# Altium schematic symbol library H3_PROTOTYPE_DDR3_16X2_V3_0_20141113_Library.SchLib: 144 symbols (part 1 of 3)
Pins are listed as number, name and electrical type; pins without a type are passive.

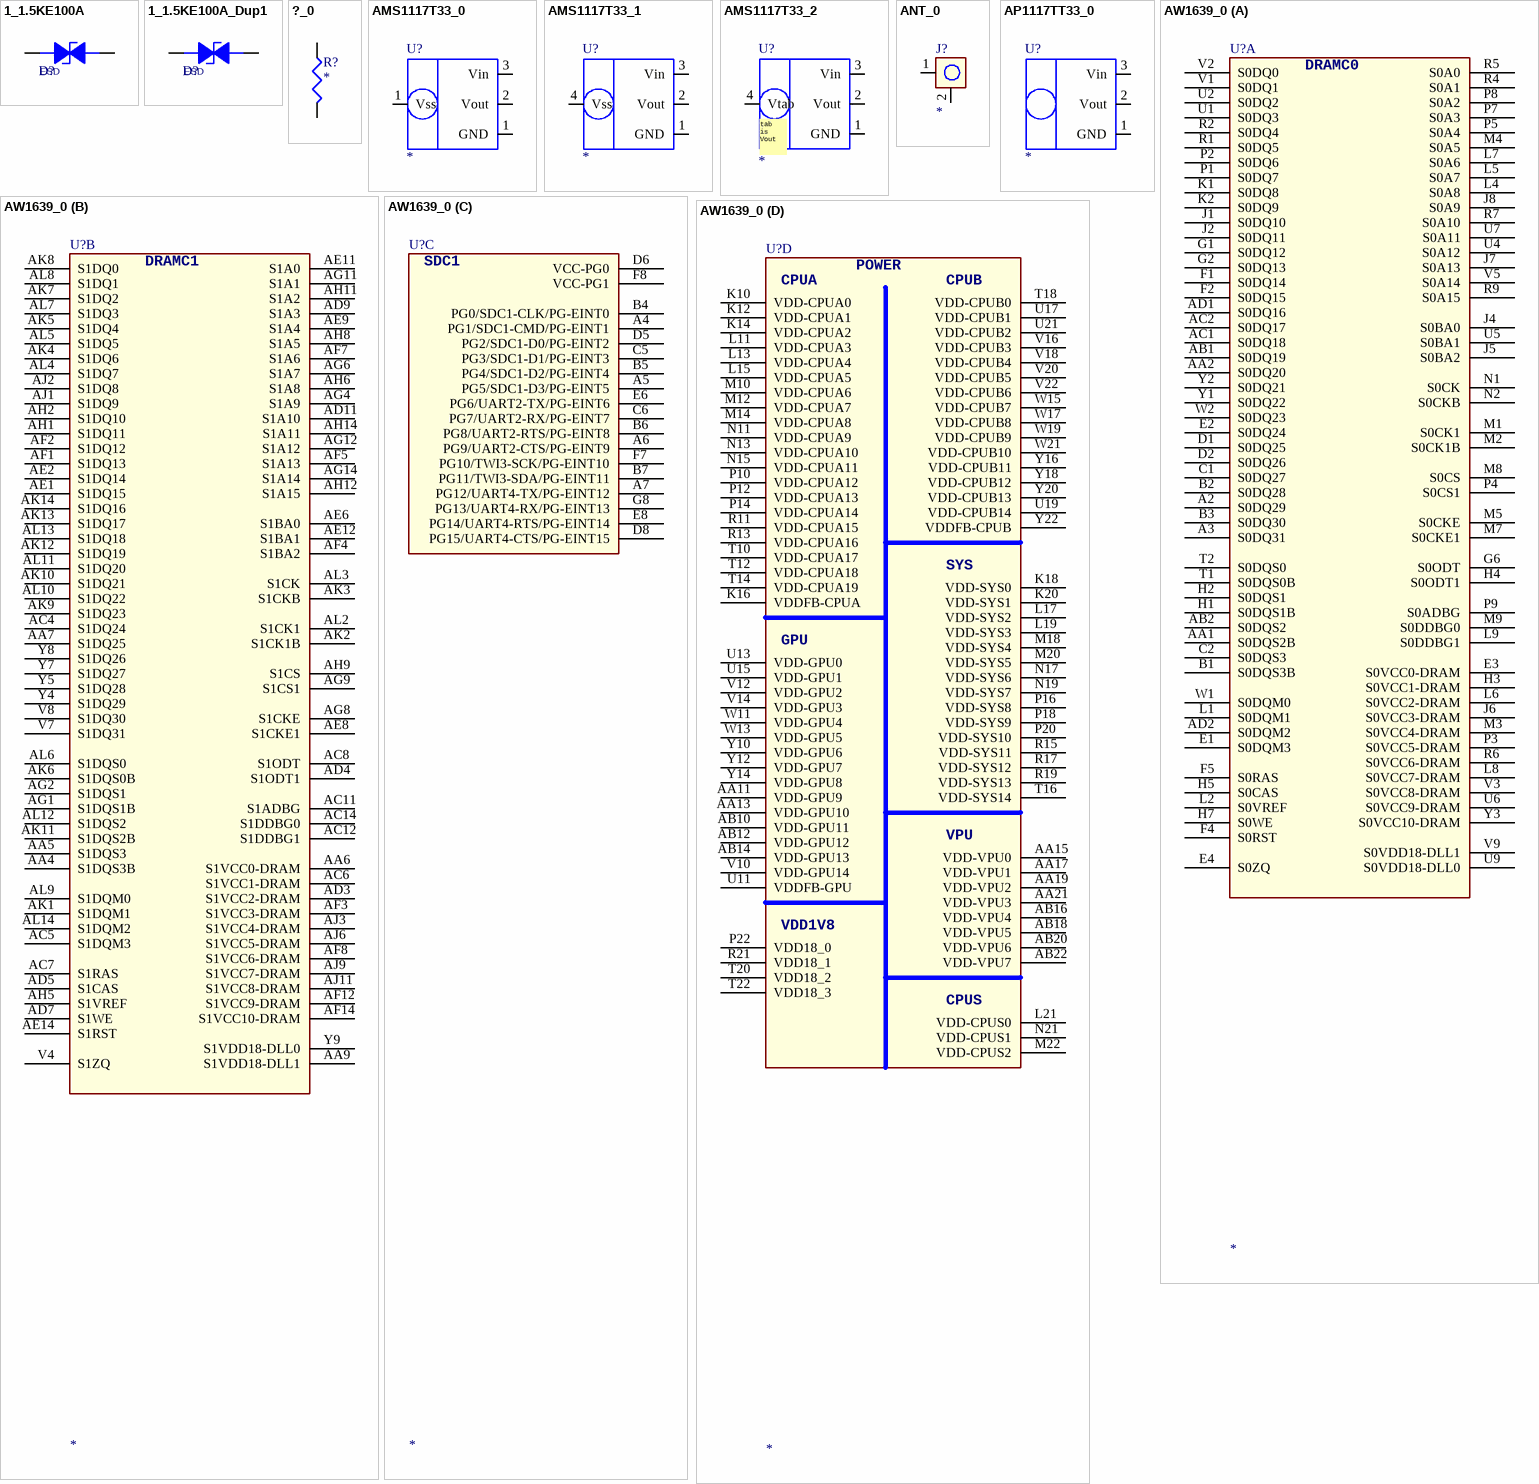
[diagram p0: symbols 1_1.5KE100A to AW1639_0]

## 1_1.5KE100A
designator D?, comment ESD
pins: 1 ANODE, 2 CATHODE

## 1_1.5KE100A_Dup1
designator D?, comment ESD
pins: 1 ANODE, 2 CATHODE

## ?_0
designator R?
footprint R0402
pins: 1, 2

## AMS1117T33_0
designator U?
pins: 1 GND, 1 Vss, 2 Vout, 3 Vin

## AMS1117T33_1
designator U?
pins: 1 GND, 2 Vout, 3 Vin, 4 Vss

## AMS1117T33_2
designator U?
pins: 1 GND, 2 Vout, 3 Vin, 4 Vtab
text: tab / is / Vout

## ANT_0
designator J?
pins: 1, 2

## AP1117TT33_0
designator U?
pins: 1 GND, 2 Vout, 3 Vin

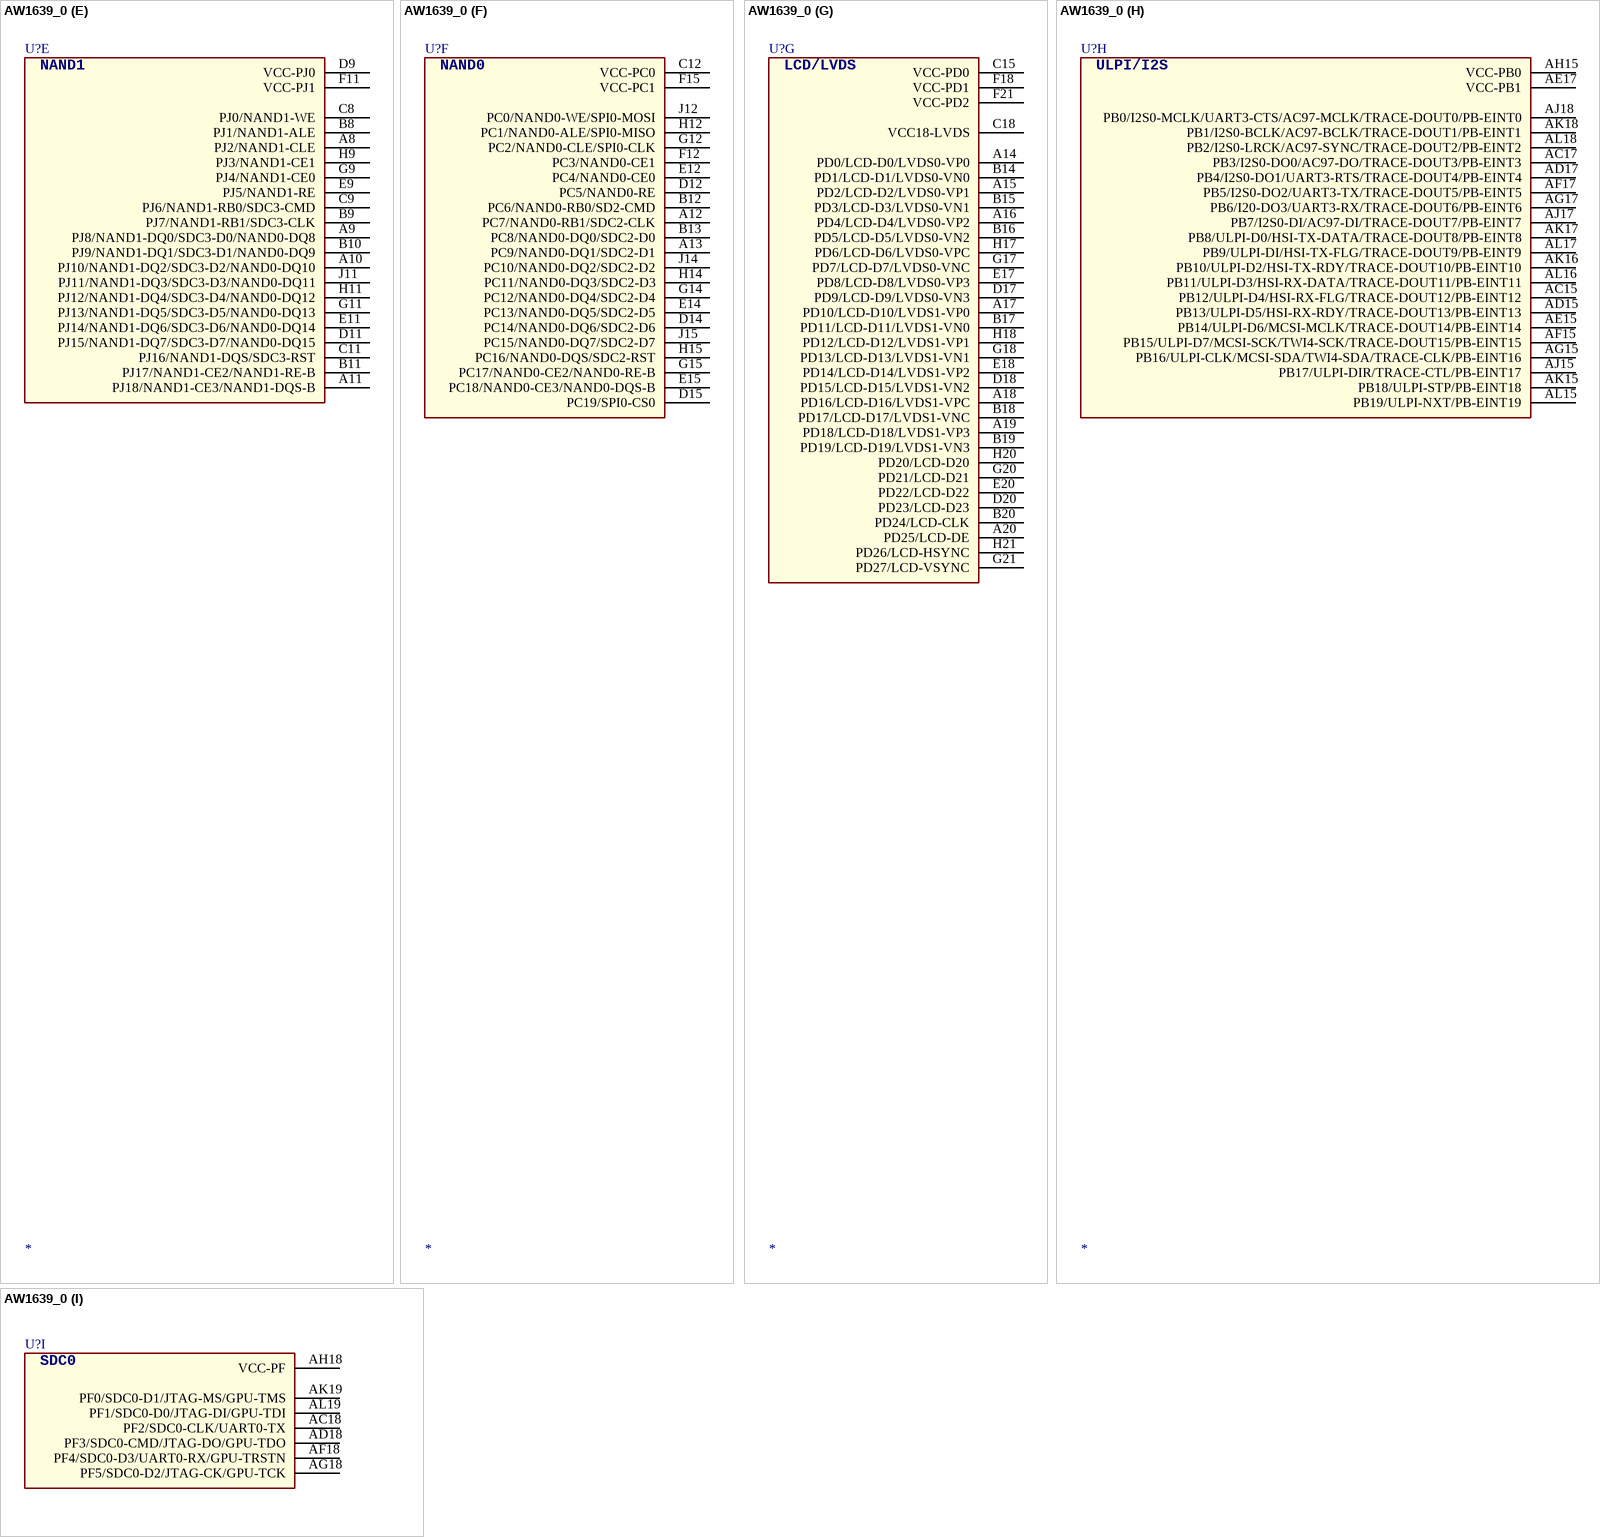
[diagram p1: symbol AW1639_0]

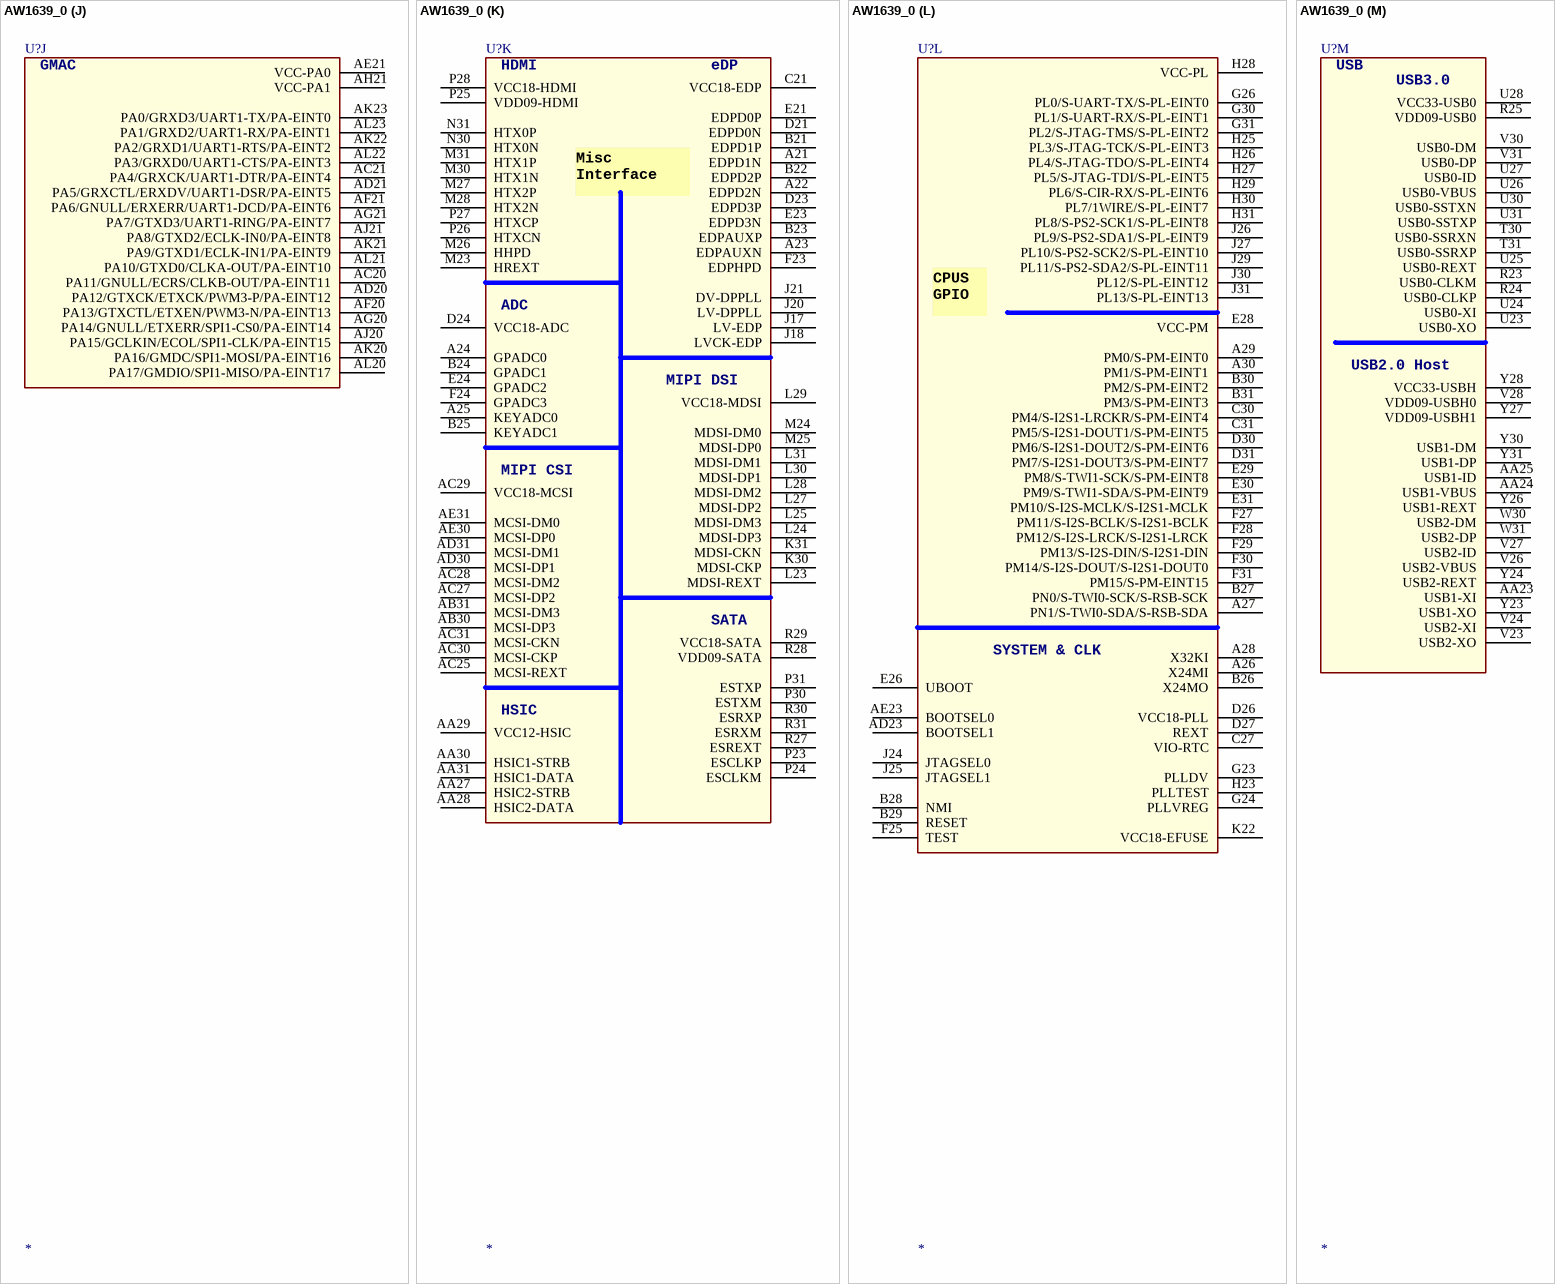
[diagram p2: symbol AW1639_0]

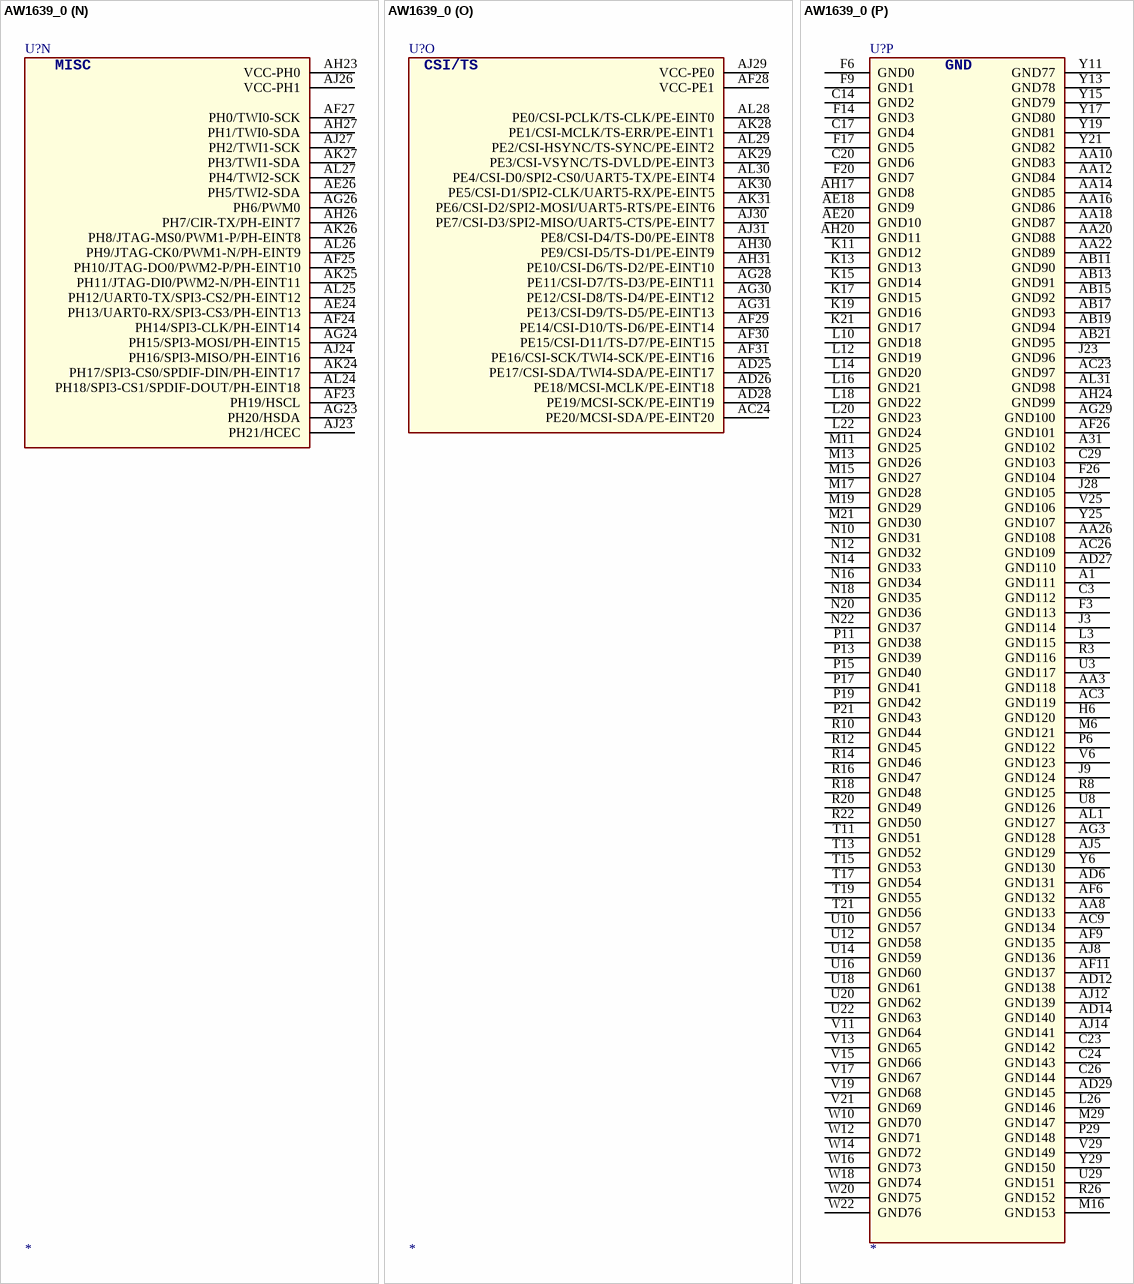
[diagram p3: symbol AW1639_0]

## AW1639_0
designator U?
part A pins: A2 S0DQ29, A3 S0DQ31, AA1 S0DQS2B, AA2 S0DQ20, AB1 S0DQ19, AB2 S0DQS2, AC1 S0DQ18, AC2 S0DQ17, AD1 S0DQ16, AD2 S0DQM2, B1 S0DQS3B, B2 S0DQ28, B3 S0DQ30, C1 S0DQ27, C2 S0DQS3, D1 S0DQ25, D2 S0DQ26, E1 S0DQM3, E2 S0DQ24, E3 S0VCC0-DRAM, E4 S0ZQ, F1 S0DQ14, F2 S0DQ15, F4 S0RST, F5 S0RAS, G1 S0DQ12, G2 S0DQ13, G6 S0ODT, H1 S0DQS1B, H2 S0DQS1, H3 S0VCC1-DRAM, H4 S0ODT1, H5 S0CAS, H7 S0WE, J1 S0DQ10, J2 S0DQ11, J4 S0BA0, J5 S0BA2, J6 S0VCC3-DRAM, J7 S0A13, J8 S0A9, K1 S0DQ8, K2 S0DQ9, L1 S0DQM1, L2 S0VREF, L4 S0A8, L5 S0A7, L6 S0VCC2-DRAM, L7 S0A6, L8 S0VCC7-DRAM, L9 S0DDBG1, M1 S0CK1, M2 S0CK1B, M3 S0VCC4-DRAM, M4 S0A5, M5 S0CKE, M7 S0CKE1, M8 S0CS, M9 S0DDBG0, N1 S0CK, N2 S0CKB, P1 S0DQ7, P2 S0DQ6, P3 S0VCC5-DRAM, P4 S0CS1, P5 S0A4, P7 S0A3, P8 S0A2, P9 S0ADBG, R1 S0DQ5, R2 S0DQ4, R4 S0A1, R5 S0A0, R6 S0VCC6-DRAM, R7 S0A10, R9 S0A15, T1 S0DQS0B, T2 S0DQS0, U1 S0DQ3, U2 S0DQ2, U4 S0A12, U5 S0BA1, U6 S0VCC9-DRAM, U7 S0A11, U9 S0VDD18-DLL0, V1 S0DQ1, V2 S0DQ0, V3 S0VCC8-DRAM, V5 S0A14, V9 S0VDD18-DLL1, W1 S0DQM0, W2 S0DQ23, Y1 S0DQ22, Y2 S0DQ21, Y3 S0VCC10-DRAM
part B pins: AA4 S1DQS3B, AA5 S1DQS3, AA6 S1VCC0-DRAM, AA7 S1DQ25, AA9 S1VDD18-DLL1, AC4 S1DQ24, AC5 S1DQM3, AC6 S1VCC1-DRAM, AC7 S1RAS, AC8 S1ODT, AC11 S1ADBG, AC12 S1DDBG1, AC14 S1DDBG0, AD3 S1VCC2-DRAM, AD4 S1ODT1, AD5 S1CAS, AD7 S1WE, AD9 S1A3, AD11 S1A10, AE1 S1DQ15, AE2 S1DQ14, AE6 S1BA0, AE8 S1CKE1, AE9 S1A4, AE11 S1A0, AE12 S1BA1, AE14 S1RST, AF1 S1DQ13, AF2 S1DQ12, AF3 S1VCC3-DRAM, AF4 S1BA2, AF5 S1A13, AF7 S1A6, AF8 S1VCC6-DRAM, AF12 S1VCC9-DRAM, AF14 S1VCC10-DRAM, AG1 S1DQS1B, AG2 S1DQS1, AG4 S1A9, AG6 S1A7, AG8 S1CKE, AG9 S1CS1, AG11 S1A1, AG12 S1A12, AG14 S1A14, AH1 S1DQ11, AH2 S1DQ10, AH5 S1VREF, AH6 S1A8, AH8 S1A5, AH9 S1CS, AH11 S1A2, AH12 S1A15, AH14 S1A11, AJ1 S1DQ9, AJ2 S1DQ8, AJ3 S1VCC4-DRAM, AJ6 S1VCC5-DRAM, AJ9 S1VCC7-DRAM, AJ11 S1VCC8-DRAM, AK1 S1DQM1, AK2 S1CK1B, AK3 S1CKB, AK4 S1DQ6, AK5 S1DQ4, AK6 S1DQS0B, AK7 S1DQ2, AK8 S1DQ0, AK9 S1DQ23, AK10 S1DQ21, AK11 S1DQS2B, AK12 S1DQ19, AK13 S1DQ17, AK14 S1DQ16, AL2 S1CK1, AL3 S1CK, AL4 S1DQ7, AL5 S1DQ5, AL6 S1DQS0, AL7 S1DQ3, AL8 S1DQ1, AL9 S1DQM0, AL10 S1DQ22, AL11 S1DQ20, AL12 S1DQS2, AL13 S1DQ18, AL14 S1DQM2, V4 S1ZQ, V7 S1DQ31, V8 S1DQ30, Y4 S1DQ29, Y5 S1DQ28, Y7 S1DQ27, Y8 S1DQ26, Y9 S1VDD18-DLL0
part C pins: A4 PG1/SDC1-CMD/PG-EINT1, A5 PG5/SDC1-D3/PG-EINT5, A6 PG9/UART2-CTS/PG-EINT9, A7 PG12/UART4-TX/PG-EINT12, B4 PG0/SDC1-CLK/PG-EINT0, B5 PG4/SDC1-D2/PG-EINT4, B6 PG8/UART2-RTS/PG-EINT8, B7 PG11/TWI3-SDA/PG-EINT11, C5 PG3/SDC1-D1/PG-EINT3, C6 PG7/UART2-RX/PG-EINT7, D5 PG2/SDC1-D0/PG-EINT2, D6 VCC-PG0, D8 PG15/UART4-CTS/PG-EINT15, E6 PG6/UART2-TX/PG-EINT6, E8 PG14/UART4-RTS/PG-EINT14, F7 PG10/TWI3-SCK/PG-EINT10, F8 VCC-PG1, G8 PG13/UART4-RX/PG-EINT13
part D pins: AA11 VDD-GPU9, AA13 VDD-GPU10, AA15 VDD-VPU0, AA17 VDD-VPU1, AA19 VDD-VPU2, AA21 VDD-VPU3, AB10 VDD-GPU11, AB12 VDD-GPU12, AB14 VDD-GPU13, AB16 VDD-VPU4, AB18 VDD-VPU5, AB20 VDD-VPU6, AB22 VDD-VPU7, K10 VDD-CPUA0, K12 VDD-CPUA1, K14 VDD-CPUA2, K16 VDDFB-CPUA, K18 VDD-SYS0, K20 VDD-SYS1, L11 VDD-CPUA3, L13 VDD-CPUA4, L15 VDD-CPUA5, L17 VDD-SYS2, L19 VDD-SYS3, L21 VDD-CPUS0, M10 VDD-CPUA6, M12 VDD-CPUA7, M14 VDD-CPUA8, M18 VDD-SYS4, M20 VDD-SYS5, M22 VDD-CPUS2, N11 VDD-CPUA9, N13 VDD-CPUA10, N15 VDD-CPUA11, N17 VDD-SYS6, N19 VDD-SYS7, N21 VDD-CPUS1, P10 VDD-CPUA12, P12 VDD-CPUA13, P14 VDD-CPUA14, P16 VDD-SYS8, P18 VDD-SYS9, P20 VDD-SYS10, P22 VDD18_0, R11 VDD-CPUA15, R13 VDD-CPUA16, R15 VDD-SYS11, R17 VDD-SYS12, R19 VDD-SYS13, R21 VDD18_1, T10 VDD-CPUA17, T12 VDD-CPUA18, T14 VDD-CPUA19, T16 VDD-SYS14, T18 VDD-CPUB0, T20 VDD18_2, T22 VDD18_3, U11 VDDFB-GPU, U13 VDD-GPU0, U15 VDD-GPU1, U17 VDD-CPUB1, U19 VDD-CPUB14, U21 VDD-CPUB2, V10 VDD-GPU14, V12 VDD-GPU2, V14 VDD-GPU3, V16 VDD-CPUB3, V18 VDD-CPUB4, V20 VDD-CPUB5, V22 VDD-CPUB6, W11 VDD-GPU4, W13 VDD-GPU5, W15 VDD-CPUB7, W17 VDD-CPUB8, W19 VDD-CPUB9, W21 VDD-CPUB10, Y10 VDD-GPU6, Y12 VDD-GPU7, Y14 VDD-GPU8, Y16 VDD-CPUB11, Y18 VDD-CPUB12, Y20 VDD-CPUB13, Y22 VDDFB-CPUB
part E pins: A8 PJ2/NAND1-CLE, A9 PJ8/NAND1-DQ0/SDC3-D0/NAND0-DQ8, A10 PJ10/NAND1-DQ2/SDC3-D2/NAND0-DQ10, A11 PJ18/NAND1-CE3/NAND1-DQS-B, B8 PJ1/NAND1-ALE, B9 PJ7/NAND1-RB1/SDC3-CLK, B10 PJ9/NAND1-DQ1/SDC3-D1/NAND0-DQ9, B11 PJ17/NAND1-CE2/NAND1-RE-B, C8 PJ0/NAND1-WE, C9 PJ6/NAND1-RB0/SDC3-CMD, C11 PJ16/NAND1-DQS/SDC3-RST, D9 VCC-PJ0, D11 PJ15/NAND1-DQ7/SDC3-D7/NAND0-DQ15, E9 PJ5/NAND1-RE, E11 PJ14/NAND1-DQ6/SDC3-D6/NAND0-DQ14, F11 VCC-PJ1, G9 PJ4/NAND1-CE0, G11 PJ13/NAND1-DQ5/SDC3-D5/NAND0-DQ13, H9 PJ3/NAND1-CE1, H11 PJ12/NAND1-DQ4/SDC3-D4/NAND0-DQ12, J11 PJ11/NAND1-DQ3/SDC3-D3/NAND0-DQ11
part F pins: A12 PC7/NAND0-RB1/SDC2-CLK, A13 PC9/NAND0-DQ1/SDC2-D1, B12 PC6/NAND0-RB0/SD2-CMD, B13 PC8/NAND0-DQ0/SDC2-D0, C12 VCC-PC0, D12 PC5/NAND0-RE, D14 PC14/NAND0-DQ6/SDC2-D6, D15 PC19/SPI0-CS0, E12 PC4/NAND0-CE0, E14 PC13/NAND0-DQ5/SDC2-D5, E15 PC18/NAND0-CE3/NAND0-DQS-B, F12 PC3/NAND0-CE1, F15 VCC-PC1, G12 PC2/NAND0-CLE/SPI0-CLK, G14 PC12/NAND0-DQ4/SDC2-D4, G15 PC17/NAND0-CE2/NAND0-RE-B, H12 PC1/NAND0-ALE/SPI0-MISO, H14 PC11/NAND0-DQ3/SDC2-D3, H15 PC16/NAND0-DQS/SDC2-RST, J12 PC0/NAND0-WE/SPI0-MOSI, J14 PC10/NAND0-DQ2/SDC2-D2, J15 PC15/NAND0-DQ7/SDC2-D7
part G pins: A14 PD0/LCD-D0/LVDS0-VP0, A15 PD2/LCD-D2/LVDS0-VP1, A16 PD4/LCD-D4/LVDS0-VP2, A17 PD10/LCD-D10/LVDS1-VP0, A18 PD16/LCD-D16/LVDS1-VPC, A19 PD18/LCD-D18/LVDS1-VP3, A20 PD25/LCD-DE, B14 PD1/LCD-D1/LVDS0-VN0, B15 PD3/LCD-D3/LVDS0-VN1, B16 PD5/LCD-D5/LVDS0-VN2, B17 PD11/LCD-D11/LVDS1-VN0, B18 PD17/LCD-D17/LVDS1-VNC, B19 PD19/LCD-D19/LVDS1-VN3, B20 PD24/LCD-CLK, C15 VCC-PD0, C18 VCC18-LVDS, D17 PD9/LCD-D9/LVDS0-VN3, D18 PD15/LCD-D15/LVDS1-VN2, D20 PD23/LCD-D23, E17 PD8/LCD-D8/LVDS0-VP3, E18 PD14/LCD-D14/LVDS1-VP2, E20 PD22/LCD-D22, F18 VCC-PD1, F21 VCC-PD2, G17 PD7/LCD-D7/LVDS0-VNC, G18 PD13/LCD-D13/LVDS1-VN1, G20 PD21/LCD-D21, G21 PD27/LCD-VSYNC, H17 PD6/LCD-D6/LVDS0-VPC, H18 PD12/LCD-D12/LVDS1-VP1, H20 PD20/LCD-D20, H21 PD26/LCD-HSYNC
part H pins: AC15 PB12/ULPI-D4/HSI-RX-FLG/TRACE-DOUT12/PB-EINT12, AC17 PB3/I2S0-DO0/AC97-DO/TRACE-DOUT3/PB-EINT3, AD15 PB13/ULPI-D5/HSI-RX-RDY/TRACE-DOUT13/PB-EINT13, AD17 PB4/I2S0-DO1/UART3-RTS/TRACE-DOUT4/PB-EINT4, AE15 PB14/ULPI-D6/MCSI-MCLK/TRACE-DOUT14/PB-EINT14, AE17 VCC-PB1, AF15 PB15/ULPI-D7/MCSI-SCK/TWI4-SCK/TRACE-DOUT15/PB-EINT15, AF17 PB5/I2S0-DO2/UART3-TX/TRACE-DOUT5/PB-EINT5, AG15 PB16/ULPI-CLK/MCSI-SDA/TWI4-SDA/TRACE-CLK/PB-EINT16, AG17 PB6/I20-DO3/UART3-RX/TRACE-DOUT6/PB-EINT6, AH15 VCC-PB0, AJ15 PB17/ULPI-DIR/TRACE-CTL/PB-EINT17, AJ17 PB7/I2S0-DI/AC97-DI/TRACE-DOUT7/PB-EINT7, AJ18 PB0/I2S0-MCLK/UART3-CTS/AC97-MCLK/TRACE-DOUT0/PB-EINT0, AK15 PB18/ULPI-STP/PB-EINT18, AK16 PB10/ULPI-D2/HSI-TX-RDY/TRACE-DOUT10/PB-EINT10, AK17 PB8/ULPI-D0/HSI-TX-DATA/TRACE-DOUT8/PB-EINT8, AK18 PB1/I2S0-BCLK/AC97-BCLK/TRACE-DOUT1/PB-EINT1, AL15 PB19/ULPI-NXT/PB-EINT19, AL16 PB11/ULPI-D3/HSI-RX-DATA/TRACE-DOUT11/PB-EINT11, AL17 PB9/ULPI-DI/HSI-TX-FLG/TRACE-DOUT9/PB-EINT9, AL18 PB2/I2S0-LRCK/AC97-SYNC/TRACE-DOUT2/PB-EINT2
part I pins: AC18 PF2/SDC0-CLK/UART0-TX, AD18 PF3/SDC0-CMD/JTAG-DO/GPU-TDO, AF18 PF4/SDC0-D3/UART0-RX/GPU-TRSTN, AG18 PF5/SDC0-D2/JTAG-CK/GPU-TCK, AH18 VCC-PF, AK19 PF0/SDC0-D1/JTAG-MS/GPU-TMS, AL19 PF1/SDC0-D0/JTAG-DI/GPU-TDI
part J pins: AC20 PA11/GNULL/ECRS/CLKB-OUT/PA-EINT11, AC21 PA4/GRXCK/UART1-DTR/PA-EINT4, AD20 PA12/GTXCK/ETXCK/PWM3-P/PA-EINT12, AD21 PA5/GRXCTL/ERXDV/UART1-DSR/PA-EINT5, AE21 VCC-PA0, AF20 PA13/GTXCTL/ETXEN/PWM3-N/PA-EINT13, AF21 PA6/GNULL/ERXERR/UART1-DCD/PA-EINT6, AG20 PA14/GNULL/ETXERR/SPI1-CS0/PA-EINT14, AG21 PA7/GTXD3/UART1-RING/PA-EINT7, AH21 VCC-PA1, AJ20 PA15/GCLKIN/ECOL/SPI1-CLK/PA-EINT15, AJ21 PA8/GTXD2/ECLK-IN0/PA-EINT8, AK20 PA16/GMDC/SPI1-MOSI/PA-EINT16, AK21 PA9/GTXD1/ECLK-IN1/PA-EINT9, AK22 PA2/GRXD1/UART1-RTS/PA-EINT2, AK23 PA0/GRXD3/UART1-TX/PA-EINT0, AL20 PA17/GMDIO/SPI1-MISO/PA-EINT17, AL21 PA10/GTXD0/CLKA-OUT/PA-EINT10, AL22 PA3/GRXD0/UART1-CTS/PA-EINT3, AL23 PA1/GRXD2/UART1-RX/PA-EINT1
part K pins: A21 EDPD1N, A22 EDPD2N, A23 EDPAUXN, A24 GPADC0, A25 KEYADC0, AA27 HSIC2-STRB, AA28 HSIC2-DATA, AA29 VCC12-HSIC, AA30 HSIC1-STRB, AA31 HSIC1-DATA, AB30 MCSI-DP3, AB31 MCSI-DM3, AC25 MCSI-REXT, AC27 MCSI-DP2, AC28 MCSI-DM2, AC29 VCC18-MCSI, AC30 MCSI-CKP, AC31 MCSI-CKN, AD30 MCSI-DP1, AD31 MCSI-DM1, AE30 MCSI-DP0, AE31 MCSI-DM0, B21 EDPD1P, B22 EDPD2P, B23 EDPAUXP, B24 GPADC1, B25 KEYADC1, C21 VCC18-EDP, D21 EDPD0N, D23 EDPD3P, D24 VCC18-ADC, E21 EDPD0P, E23 EDPD3N, E24 GPADC2, F23 EDPHPD, F24 GPADC3, J17 LV-EDP, J18 LVCK-EDP, J20 LV-DPPLL, J21 DV-DPPLL, K30 MDSI-CKP, K31 MDSI-CKN, L23 MDSI-REXT, L24 MDSI-DP3, L25 MDSI-DM3, L27 MDSI-DP2, L28 MDSI-DM2, L29 VCC18-MDSI, L30 MDSI-DP1, L31 MDSI-DM1, M23 HREXT, M24 MDSI-DM0, M25 MDSI-DP0, M26 HHPD, M27 HTX2P, M28 HTX2N, M30 HTX1N, M31 HTX1P, N30 HTX0N, N31 HTX0P, P23 ESCLKP, P24 ESCLKM, P25 VDD09-HDMI, P26 HTXCN, P27 HTXCP, P28 VCC18-HDMI, P30 ESTXM, P31 ESTXP, R27 ESREXT, R28 VDD09-SATA, R29 VCC18-SATA, R30 ESRXP, R31 ESRXM
part L pins: A26 X24MI, A27 PN1/S-TWI0-SDA/S-RSB-SDA, A28 X32KI, A29 PM0/S-PM-EINT0, A30 PM1/S-PM-EINT1, AD23 BOOTSEL1, AE23 BOOTSEL0, B26 X24MO, B27 PN0/S-TWI0-SCK/S-RSB-SCK, B28 NMI, B29 RESET, B30 PM2/S-PM-EINT2, B31 PM3/S-PM-EINT3, C27 VIO-RTC, C30 PM4/S-I2S1-LRCKR/S-PM-EINT4, C31 PM5/S-I2S1-DOUT1/S-PM-EINT5, D26 VCC18-PLL, D27 REXT, D30 PM6/S-I2S1-DOUT2/S-PM-EINT6, D31 PM7/S-I2S1-DOUT3/S-PM-EINT7, E26 UBOOT, E28 VCC-PM, E29 PM8/S-TWI1-SCK/S-PM-EINT8, E30 PM9/S-TWI1-SDA/S-PM-EINT9, E31 PM10/S-I2S-MCLK/S-I2S1-MCLK, F25 TEST, F27 PM11/S-I2S-BCLK/S-I2S1-BCLK, F28 PM12/S-I2S-LRCK/S-I2S1-LRCK, F29 PM13/S-I2S-DIN/S-I2S1-DIN, F30 PM14/S-I2S-DOUT/S-I2S1-DOUT0, F31 PM15/S-PM-EINT15, G23 PLLDV, G24 PLLVREG, G26 PL0/S-UART-TX/S-PL-EINT0, G30 PL1/S-UART-RX/S-PL-EINT1, G31 PL2/S-JTAG-TMS/S-PL-EINT2, H23 PLLTEST, H25 PL3/S-JTAG-TCK/S-PL-EINT3, H26 PL4/S-JTAG-TDO/S-PL-EINT4, H27 PL5/S-JTAG-TDI/S-PL-EINT5, H28 VCC-PL, H29 PL6/S-CIR-RX/S-PL-EINT6, H30 PL7/1WIRE/S-PL-EINT7, H31 PL8/S-PS2-SCK1/S-PL-EINT8, J24 JTAGSEL0, J25 JTAGSEL1, J26 PL9/S-PS2-SDA1/S-PL-EINT9, J27 PL10/S-PS2-SCK2/S-PL-EINT10, J29 PL11/S-PS2-SDA2/S-PL-EINT11, J30 PL12/S-PL-EINT12, J31 PL13/S-PL-EINT13, K22 VCC18-EFUSE
part M pins: AA23 USB1-XI, AA24 USB1-VBUS, AA25 USB1-ID, R23 USB0-CLKM, R24 USB0-CLKP, R25 VDD09-USB0, T30 USB0-SSRXN, T31 USB0-SSRXP, U23 USB0-XO, U24 USB0-XI, U25 USB0-REXT, U26 USB0-VBUS, U27 USB0-ID, U28 VCC33-USB0, U30 USB0-SSTXN, U31 USB0-SSTXP, V23 USB2-XO, V24 USB2-XI, V26 USB2-VBUS, V27 USB2-ID, V28 VDD09-USBH0, V30 USB0-DM, V31 USB0-DP, W30 USB2-DM, W31 USB2-DP, Y23 USB1-XO, Y24 USB2-REXT, Y26 USB1-REXT, Y27 VDD09-USBH1, Y28 VCC33-USBH, Y30 USB1-DM, Y31 USB1-DP
part N pins: AE24 PH13/UART0-RX/SPI3-CS3/PH-EINT13, AE26 PH5/TWI2-SDA, AF23 PH19/HSCL, AF24 PH14/SPI3-CLK/PH-EINT14, AF25 PH10/JTAG-DO0/PWM2-P/PH-EINT10, AF27 PH0/TWI0-SCK, AG23 PH20/HSDA, AG24 PH15/SPI3-MOSI/PH-EINT15, AG26 PH6/PWM0, AH23 VCC-PH0, AH26 PH7/CIR-TX/PH-EINT7, AH27 PH1/TWI0-SDA, AJ23 PH21/HCEC, AJ24 PH16/SPI3-MISO/PH-EINT16, AJ26 VCC-PH1, AJ27 PH2/TWI1-SCK, AK24 PH17/SPI3-CS0/SPDIF-DIN/PH-EINT17, AK25 PH11/JTAG-DI0/PWM2-N/PH-EINT11, AK26 PH8/JTAG-MS0/PWM1-P/PH-EINT8, AK27 PH3/TWI1-SDA, AL24 PH18/SPI3-CS1/SPDIF-DOUT/PH-EINT18, AL25 PH12/UART0-TX/SPI3-CS2/PH-EINT12, AL26 PH9/JTAG-CK0/PWM1-N/PH-EINT9, AL27 PH4/TWI2-SCK
part O pins: AC24 PE20/MCSI-SDA/PE-EINT20, AD25 PE17/CSI-SDA/TWI4-SDA/PE-EINT17, AD26 PE18/MCSI-MCLK/PE-EINT18, AD28 PE19/MCSI-SCK/PE-EINT19, AF28 VCC-PE1, AF29 PE14/CSI-D10/TS-D6/PE-EINT14, AF30 PE15/CSI-D11/TS-D7/PE-EINT15, AF31 PE16/CSI-SCK/TWI4-SCK/PE-EINT16, AG28 PE11/CSI-D7/TS-D3/PE-EINT11, AG30 PE12/CSI-D8/TS-D4/PE-EINT12, AG31 PE13/CSI-D9/TS-D5/PE-EINT13, AH30 PE9/CSI-D5/TS-D1/PE-EINT9, AH31 PE10/CSI-D6/TS-D2/PE-EINT10, AJ29 VCC-PE0, AJ30 PE7/CSI-D3/SPI2-MISO/UART5-CTS/PE-EINT7, AJ31 PE8/CSI-D4/TS-D0/PE-EINT8, AK28 PE1/CSI-MCLK/TS-ERR/PE-EINT1, AK29 PE3/CSI-VSYNC/TS-DVLD/PE-EINT3, AK30 PE5/CSI-D1/SPI2-CLK/UART5-RX/PE-EINT5, AK31 PE6/CSI-D2/SPI2-MOSI/UART5-RTS/PE-EINT6, AL28 PE0/CSI-PCLK/TS-CLK/PE-EINT0, AL29 PE2/CSI-HSYNC/TS-SYNC/PE-EINT2, AL30 PE4/CSI-D0/SPI2-CS0/UART5-TX/PE-EINT4
part P pins: A1 GND111, A31 GND102, AA3 GND118, AA8 GND133, AA10 GND83, AA12 GND84, AA14 GND85, AA16 GND86, AA18 GND87, AA20 GND88, AA22 GND89, AA26 GND108, AB11 GND90, AB13 GND91, AB15 GND92, AB17 GND93, AB19 GND94, AB21 GND95, AC3 GND119, AC9 GND134, AC23 GND97, AC26 GND109, AD6 GND131, AD12 GND138, AD14 GND140, AD27 GND110, AD29 GND145, AE18 GND9, AE20 GND10, AF6 GND132, AF9 GND135, AF11 GND137, AF26 GND101, AG3 GND128, AG29 GND100, AH17 GND8, AH20 GND11, AH24 GND99, AJ5 GND129, AJ8 GND136, AJ12 GND139, AJ14 GND141, AL1 GND127, AL31 GND98, C3 GND112, C14 GND2, C17 GND4, C20 GND6, C23 GND142, C24 GND143, C26 GND144, C29 GND103, F3 GND113, F6 GND0, F9 GND1, F14 GND3, F17 GND5, F20 GND7, F26 GND104, H6 GND120, J3 GND114, J9 GND124, J23 GND96, J28 GND105, K11 GND12, K13 GND13, K15 GND14, K17 GND15, K19 GND16, K21 GND17, L3 GND115, L10 GND18, L12 GND19, L14 GND20, L16 GND21, L18 GND22, L20 GND23, L22 GND24, L26 GND146, M6 GND121, M11 GND25, M13 GND26, M15 GND27, M16 GND153, M17 GND28, M19 GND29, M21 GND30, M29 GND147, N10 GND31, N12 GND32, N14 GND33, N16 GND34, N18 GND35, N20 GND36, N22 GND37, P6 GND122, P11 GND38, P13 GND39, P15 GND40, P17 GND41, P19 GND42, P21 GND43, P29 GND148, R3 GND116, R8 GND125, R10 GND44, R12 GND45, R14 GND46, R16 GND47, R18 GND48, R20 GND49, R22 GND50, R26 GND152, T11 GND51, T13 GND52, T15 GND53, T17 GND54, T19 GND55, T21 GND56, U3 GND117, U8 GND126, U10 GND57, U12 GND58, U14 GND59, U16 GND60, U18 GND61, U20 GND62, U22 GND63, U29 GND151, V6 GND123, V11 GND64, V13 GND65, V15 GND66, V17 GND67, V19 GND68, V21 GND69, V25 GND106, V29 GND149, W10 GND70, W12 GND71, W14 GND72, W16 GND73, W18 GND74, W20 GND75, W22 GND76, Y6 GND130, Y11 GND77, Y13 GND78, Y15 GND79, Y17 GND80, Y19 GND81, Y21 GND82, Y25 GND107, Y29 GND150
part A text: DRAMC0
part B text: DRAMC1
part C text: SDC1
part D text: POWER; CPUA; CPUB; SYS; GPU; VPU; VDD1V8; CPUS
part E text: NAND1
part F text: NAND0
part G text: LCD/LVDS
part H text: ULPI/I2S
part I text: SDC0
part J text: GMAC
part K text: HDMI; eDP; Misc / Interface; ADC; MIPI DSI; MIPI CSI; SATA; HSIC
part L text: CPUS / GPIO; SYSTEM & CLK
part M text: USB; USB3.0; USB2.0 Host
part N text: MISC
part O text: CSI/TS
part P text: GND

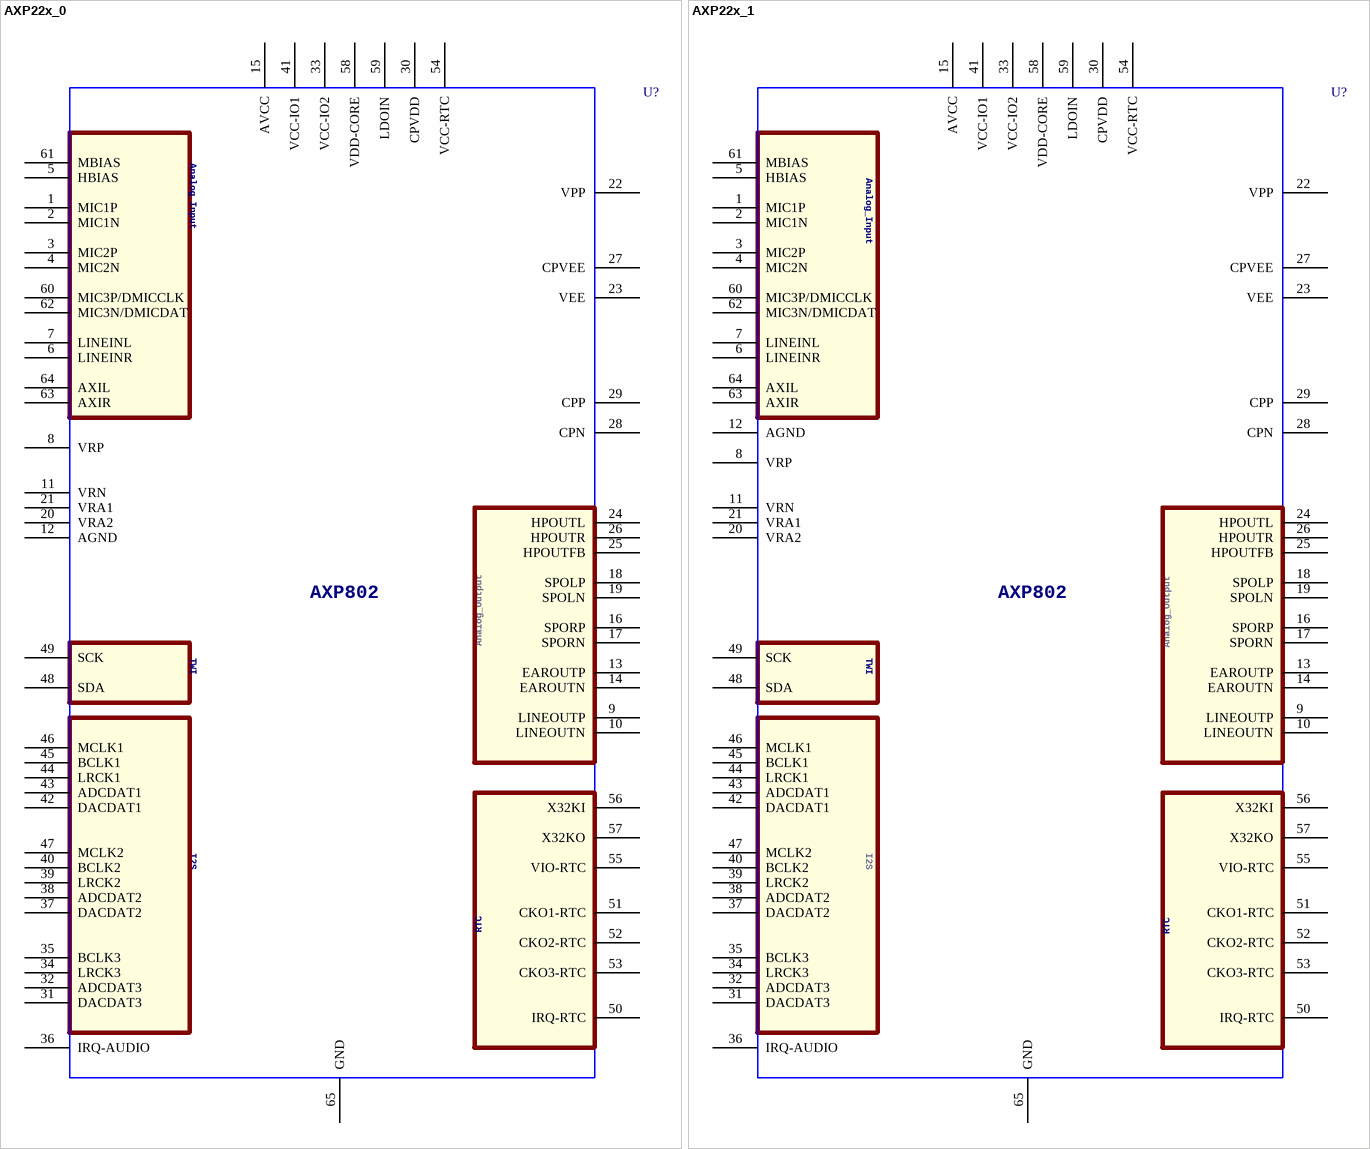
[diagram p4: symbols AXP22x_0 to AXP22x_1]

## AXP22x_0
designator U?, comment AXP22x  (value not drawn)
pins: 1 MIC1P, 2 MIC1N, 3 MIC2P, 4 MIC2N, 5 HBIAS, 6 LINEINR, 7 LINEINL, 8 VRP, 9 LINEOUTP, 10 LINEOUTN, 11 VRN, 12 AGND, 13 EAROUTP, 14 EAROUTN, 15 AVCC, 16 SPORP, 17 SPORN, 18 SPOLP, 19 SPOLN, 20 VRA2, 21 VRA1, 22 VPP, 23 VEE, 24 HPOUTL, 25 HPOUTFB, 26 HPOUTR, 27 CPVEE, 28 CPN, 29 CPP, 30 CPVDD, 31 DACDAT3, 32 ADCDAT3, 33 VCC-IO2, 34 LRCK3, 35 BCLK3, 36 IRQ-AUDIO, 37 DACDAT2, 38 ADCDAT2, 39 LRCK2, 40 BCLK2, 41 VCC-IO1, 42 DACDAT1, 43 ADCDAT1, 44 LRCK1, 45 BCLK1, 46 MCLK1, 47 MCLK2, 48 SDA, 49 SCK, 50 IRQ-RTC, 51 CKO1-RTC, 52 CKO2-RTC, 53 CKO3-RTC, 54 VCC-RTC, 55 VIO-RTC, 56 X32KI, 57 X32KO, 58 VDD-CORE, 59 LDOIN, 60 MIC3P/DMICCLK, 61 MBIAS, 62 MIC3N/DMICDAT, 63 AXIR, 64 AXIL, 65 GND
text: Analog_Input; AXP802; Analog_Output; TWI; I2S; RTC

## AXP22x_1
designator U?, comment AXP22x  (value not drawn)
pins: 1 MIC1P, 2 MIC1N, 3 MIC2P, 4 MIC2N, 5 HBIAS, 6 LINEINR, 7 LINEINL, 8 VRP, 9 LINEOUTP, 10 LINEOUTN, 11 VRN, 12 AGND, 13 EAROUTP, 14 EAROUTN, 15 AVCC, 16 SPORP, 17 SPORN, 18 SPOLP, 19 SPOLN, 20 VRA2, 21 VRA1, 22 VPP, 23 VEE, 24 HPOUTL, 25 HPOUTFB, 26 HPOUTR, 27 CPVEE, 28 CPN, 29 CPP, 30 CPVDD, 31 DACDAT3, 32 ADCDAT3, 33 VCC-IO2, 34 LRCK3, 35 BCLK3, 36 IRQ-AUDIO, 37 DACDAT2, 38 ADCDAT2, 39 LRCK2, 40 BCLK2, 41 VCC-IO1, 42 DACDAT1, 43 ADCDAT1, 44 LRCK1, 45 BCLK1, 46 MCLK1, 47 MCLK2, 48 SDA, 49 SCK, 50 IRQ-RTC, 51 CKO1-RTC, 52 CKO2-RTC, 53 CKO3-RTC, 54 VCC-RTC, 55 VIO-RTC, 56 X32KI, 57 X32KO, 58 VDD-CORE, 59 LDOIN, 60 MIC3P/DMICCLK, 61 MBIAS, 62 MIC3N/DMICDAT, 63 AXIR, 64 AXIL, 65 GND
text: Analog_Input; AXP802; Analog_Output; TWI; I2S; RTC

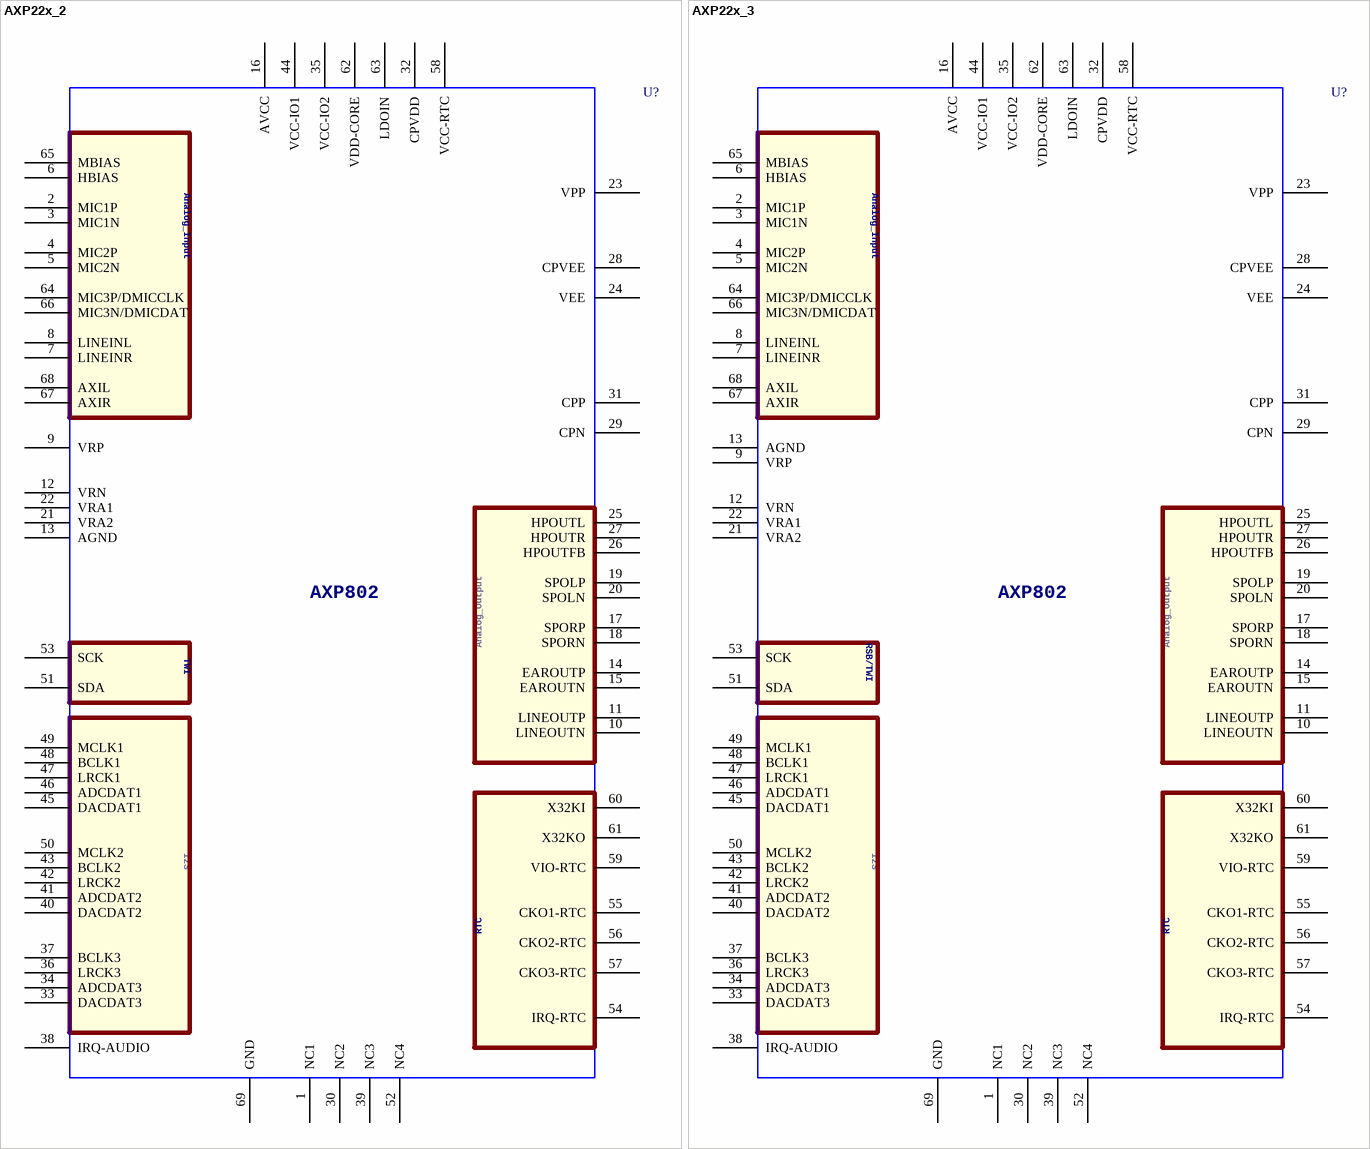
[diagram p5: symbols AXP22x_2 to AXP22x_3]

## AXP22x_2
designator U?, comment AXP22x  (value not drawn)
pins: 1 NC1, 2 MIC1P, 3 MIC1N, 4 MIC2P, 5 MIC2N, 6 HBIAS, 7 LINEINR, 8 LINEINL, 9 VRP, 10 LINEOUTN, 11 LINEOUTP, 12 VRN, 13 AGND, 14 EAROUTP, 15 EAROUTN, 16 AVCC, 17 SPORP, 18 SPORN, 19 SPOLP, 20 SPOLN, 21 VRA2, 22 VRA1, 23 VPP, 24 VEE, 25 HPOUTL, 26 HPOUTFB, 27 HPOUTR, 28 CPVEE, 29 CPN, 30 NC2, 31 CPP, 32 CPVDD, 33 DACDAT3, 34 ADCDAT3, 35 VCC-IO2, 36 LRCK3, 37 BCLK3, 38 IRQ-AUDIO, 39 NC3, 40 DACDAT2, 41 ADCDAT2, 42 LRCK2, 43 BCLK2, 44 VCC-IO1, 45 DACDAT1, 46 ADCDAT1, 47 LRCK1, 48 BCLK1, 49 MCLK1, 50 MCLK2, 51 SDA, 52 NC4, 53 SCK, 54 IRQ-RTC, 55 CKO1-RTC, 56 CKO2-RTC, 57 CKO3-RTC, 58 VCC-RTC, 59 VIO-RTC, 60 X32KI, 61 X32KO, 62 VDD-CORE, 63 LDOIN, 64 MIC3P/DMICCLK, 65 MBIAS, 66 MIC3N/DMICDAT, 67 AXIR, 68 AXIL, 69 GND
text: Analog_Input; AXP802; Analog_Output; TWI; I2S; RTC

## AXP22x_3
designator U?, comment AXP22x  (value not drawn)
pins: 1 NC1, 2 MIC1P, 3 MIC1N, 4 MIC2P, 5 MIC2N, 6 HBIAS, 7 LINEINR, 8 LINEINL, 9 VRP, 10 LINEOUTN, 11 LINEOUTP, 12 VRN, 13 AGND, 14 EAROUTP, 15 EAROUTN, 16 AVCC, 17 SPORP, 18 SPORN, 19 SPOLP, 20 SPOLN, 21 VRA2, 22 VRA1, 23 VPP, 24 VEE, 25 HPOUTL, 26 HPOUTFB, 27 HPOUTR, 28 CPVEE, 29 CPN, 30 NC2, 31 CPP, 32 CPVDD, 33 DACDAT3, 34 ADCDAT3, 35 VCC-IO2, 36 LRCK3, 37 BCLK3, 38 IRQ-AUDIO, 39 NC3, 40 DACDAT2, 41 ADCDAT2, 42 LRCK2, 43 BCLK2, 44 VCC-IO1, 45 DACDAT1, 46 ADCDAT1, 47 LRCK1, 48 BCLK1, 49 MCLK1, 50 MCLK2, 51 SDA, 52 NC4, 53 SCK, 54 IRQ-RTC, 55 CKO1-RTC, 56 CKO2-RTC, 57 CKO3-RTC, 58 VCC-RTC, 59 VIO-RTC, 60 X32KI, 61 X32KO, 62 VDD-CORE, 63 LDOIN, 64 MIC3P/DMICCLK, 65 MBIAS, 66 MIC3N/DMICDAT, 67 AXIR, 68 AXIL, 69 GND
text: Analog_Input; AXP802; RSB/TWI; Analog_Output; I2S; RTC

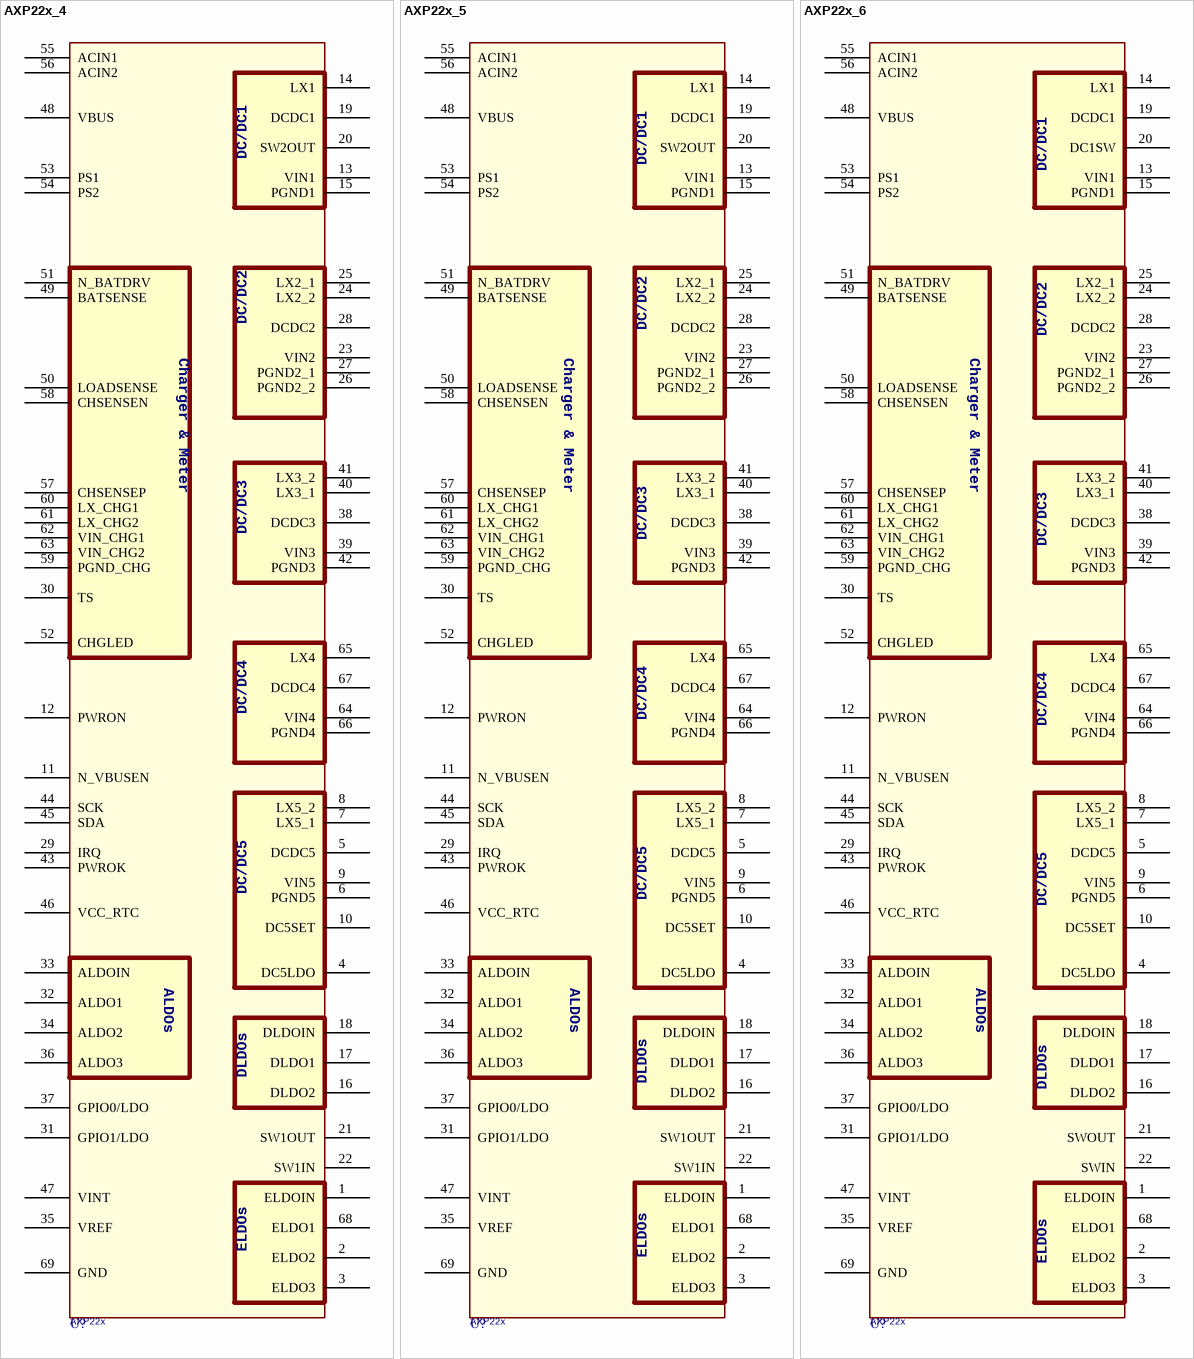
[diagram p6: symbols AXP22x_4 to AXP22x_6]

## AXP22x_4
designator U?, comment AXP22x
pins: 1 ELDOIN, 2 ELDO2, 3 ELDO3, 4 DC5LDO, 5 DCDC5, 6 PGND5, 7 LX5_1, 8 LX5_2, 9 VIN5, 10 DC5SET, 11 N_VBUSEN, 12 PWRON, 13 VIN1, 14 LX1, 15 PGND1, 16 DLDO2, 17 DLDO1, 18 DLDOIN, 19 DCDC1, 20 SW2OUT, 21 SW1OUT, 22 SW1IN, 23 VIN2, 24 LX2_2, 25 LX2_1, 26 PGND2_2, 27 PGND2_1, 28 DCDC2, 29 IRQ, 30 TS, 31 GPIO1/LDO, 32 ALDO1, 33 ALDOIN, 34 ALDO2, 35 VREF, 36 ALDO3, 37 GPIO0/LDO, 38 DCDC3, 39 VIN3, 40 LX3_1, 41 LX3_2, 42 PGND3, 43 PWROK, 44 SCK, 45 SDA, 46 VCC_RTC, 47 VINT, 48 VBUS, 49 BATSENSE, 50 LOADSENSE, 51 N_BATDRV, 52 CHGLED, 53 PS1, 54 PS2, 55 ACIN1, 56 ACIN2, 57 CHSENSEP, 58 CHSENSEN, 59 PGND_CHG, 60 LX_CHG1, 61 LX_CHG2, 62 VIN_CHG1, 63 VIN_CHG2, 64 VIN4, 65 LX4, 66 PGND4, 67 DCDC4, 68 ELDO1, 69 GND
text: DC/DC1; DC/DC2; Charger & Meter; DC/DC3; DC/DC4; DC/DC5; ALDOs; DLDOs; ELDOs

## AXP22x_5
designator U?, comment AXP22x
pins: 1 ELDOIN, 2 ELDO2, 3 ELDO3, 4 DC5LDO, 5 DCDC5, 6 PGND5, 7 LX5_1, 8 LX5_2, 9 VIN5, 10 DC5SET, 11 N_VBUSEN, 12 PWRON, 13 VIN1, 14 LX1, 15 PGND1, 16 DLDO2, 17 DLDO1, 18 DLDOIN, 19 DCDC1, 20 SW2OUT, 21 SW1OUT, 22 SW1IN, 23 VIN2, 24 LX2_2, 25 LX2_1, 26 PGND2_2, 27 PGND2_1, 28 DCDC2, 29 IRQ, 30 TS, 31 GPIO1/LDO, 32 ALDO1, 33 ALDOIN, 34 ALDO2, 35 VREF, 36 ALDO3, 37 GPIO0/LDO, 38 DCDC3, 39 VIN3, 40 LX3_1, 41 LX3_2, 42 PGND3, 43 PWROK, 44 SCK, 45 SDA, 46 VCC_RTC, 47 VINT, 48 VBUS, 49 BATSENSE, 50 LOADSENSE, 51 N_BATDRV, 52 CHGLED, 53 PS1, 54 PS2, 55 ACIN1, 56 ACIN2, 57 CHSENSEP, 58 CHSENSEN, 59 PGND_CHG, 60 LX_CHG1, 61 LX_CHG2, 62 VIN_CHG1, 63 VIN_CHG2, 64 VIN4, 65 LX4, 66 PGND4, 67 DCDC4, 68 ELDO1, 69 GND
text: DC/DC1; DC/DC2; Charger & Meter; DC/DC3; DC/DC4; DC/DC5; ALDOs; DLDOs; ELDOs

## AXP22x_6
designator U?, comment AXP22x
pins: 1 ELDOIN, 2 ELDO2, 3 ELDO3, 4 DC5LDO, 5 DCDC5, 6 PGND5, 7 LX5_1, 8 LX5_2, 9 VIN5, 10 DC5SET, 11 N_VBUSEN, 12 PWRON, 13 VIN1, 14 LX1, 15 PGND1, 16 DLDO2, 17 DLDO1, 18 DLDOIN, 19 DCDC1, 20 DC1SW, 21 SWOUT, 22 SWIN, 23 VIN2, 24 LX2_2, 25 LX2_1, 26 PGND2_2, 27 PGND2_1, 28 DCDC2, 29 IRQ, 30 TS, 31 GPIO1/LDO, 32 ALDO1, 33 ALDOIN, 34 ALDO2, 35 VREF, 36 ALDO3, 37 GPIO0/LDO, 38 DCDC3, 39 VIN3, 40 LX3_1, 41 LX3_2, 42 PGND3, 43 PWROK, 44 SCK, 45 SDA, 46 VCC_RTC, 47 VINT, 48 VBUS, 49 BATSENSE, 50 LOADSENSE, 51 N_BATDRV, 52 CHGLED, 53 PS1, 54 PS2, 55 ACIN1, 56 ACIN2, 57 CHSENSEP, 58 CHSENSEN, 59 PGND_CHG, 60 LX_CHG1, 61 LX_CHG2, 62 VIN_CHG1, 63 VIN_CHG2, 64 VIN4, 65 LX4, 66 PGND4, 67 DCDC4, 68 ELDO1, 69 GND
text: DC/DC1; DC/DC2; Charger & Meter; DC/DC3; DC/DC4; DC/DC5; ALDOs; DLDOs; ELDOs

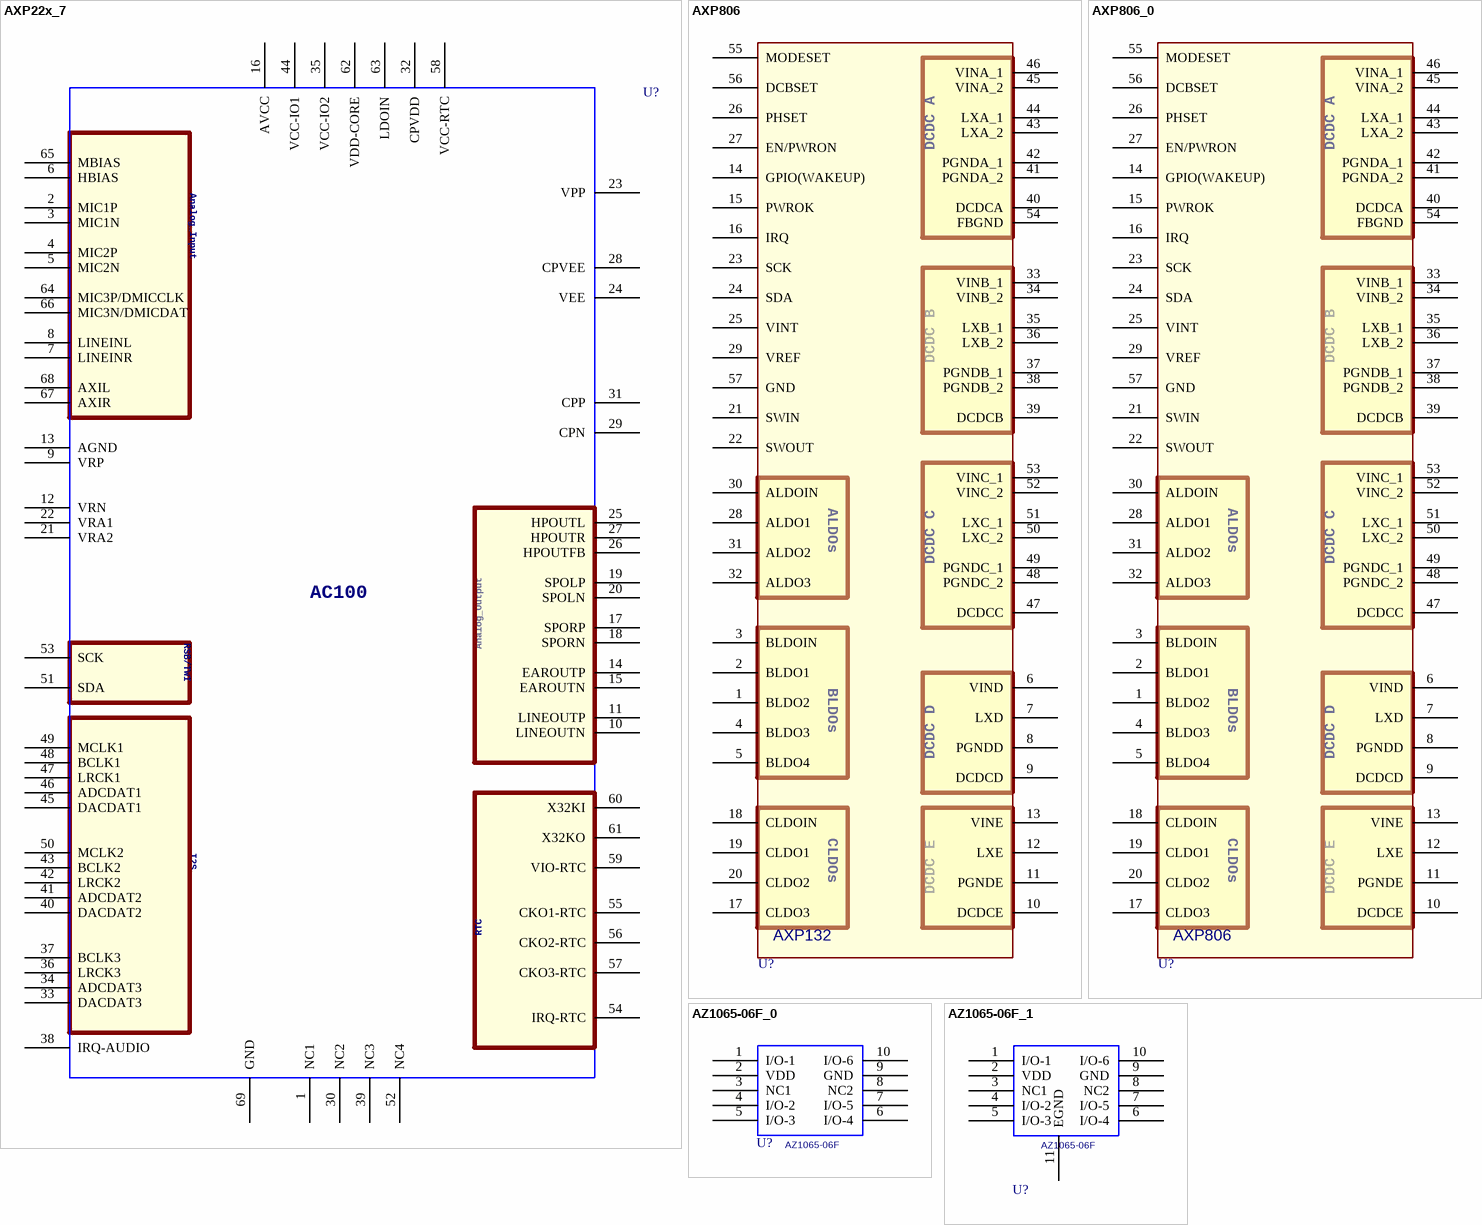
[diagram p7: symbols AXP22x_7 to AZ1065-06F_1]

## AXP22x_7
designator U?, comment AXP22x  (value not drawn)
pins: 1 NC1, 2 MIC1P, 3 MIC1N, 4 MIC2P, 5 MIC2N, 6 HBIAS, 7 LINEINR, 8 LINEINL, 9 VRP, 10 LINEOUTN, 11 LINEOUTP, 12 VRN, 13 AGND, 14 EAROUTP, 15 EAROUTN, 16 AVCC, 17 SPORP, 18 SPORN, 19 SPOLP, 20 SPOLN, 21 VRA2, 22 VRA1, 23 VPP, 24 VEE, 25 HPOUTL, 26 HPOUTFB, 27 HPOUTR, 28 CPVEE, 29 CPN, 30 NC2, 31 CPP, 32 CPVDD, 33 DACDAT3, 34 ADCDAT3, 35 VCC-IO2, 36 LRCK3, 37 BCLK3, 38 IRQ-AUDIO, 39 NC3, 40 DACDAT2, 41 ADCDAT2, 42 LRCK2, 43 BCLK2, 44 VCC-IO1, 45 DACDAT1, 46 ADCDAT1, 47 LRCK1, 48 BCLK1, 49 MCLK1, 50 MCLK2, 51 SDA, 52 NC4, 53 SCK, 54 IRQ-RTC, 55 CKO1-RTC, 56 CKO2-RTC, 57 CKO3-RTC, 58 VCC-RTC, 59 VIO-RTC, 60 X32KI, 61 X32KO, 62 VDD-CORE, 63 LDOIN, 64 MIC3P/DMICCLK, 65 MBIAS, 66 MIC3N/DMICDAT, 67 AXIR, 68 AXIL, 69 GND
text: Analog_Input; AC100; RSB/TWI; Analog_Output; I2S; RTC

## AXP806
designator U?, comment AXP132
footprint QFN56P0_4B7X7
pins: 1 BLDO2, 2 BLDO1, 3 BLDOIN, 4 BLDO3, 5 BLDO4, 6 VIND, 7 LXD, 8 PGNDD, 9 DCDCD, 10 DCDCE, 11 PGNDE, 12 LXE, 13 VINE, 14 GPIO(WAKEUP), 15 PWROK, 16 IRQ, 17 CLDO3, 18 CLDOIN, 19 CLDO1, 20 CLDO2, 21 SWIN, 22 SWOUT, 23 SCK, 24 SDA, 25 VINT, 26 PHSET, 27 EN/PWRON, 28 ALDO1, 29 VREF, 30 ALDOIN, 31 ALDO2, 32 ALDO3, 33 VINB_1, 34 VINB_2, 35 LXB_1, 36 LXB_2, 37 PGNDB_1, 38 PGNDB_2, 39 DCDCB, 40 DCDCA, 41 PGNDA_2, 42 PGNDA_1, 43 LXA_2, 44 LXA_1, 45 VINA_2, 46 VINA_1, 47 DCDCC, 48 PGNDC_2, 49 PGNDC_1, 50 LXC_2, 51 LXC_1, 52 VINC_2, 53 VINC_1, 54 FBGND, 55 MODESET, 56 DCBSET, 57 GND
text: DCDC A; DCDC B; ALDOs; DCDC C; BLDOs; DCDC D; CLDOs; DCDC E

## AXP806_0
designator U?, comment AXP806
footprint QFN56P0_4B7X7
pins: 1 BLDO2, 2 BLDO1, 3 BLDOIN, 4 BLDO3, 5 BLDO4, 6 VIND, 7 LXD, 8 PGNDD, 9 DCDCD, 10 DCDCE, 11 PGNDE, 12 LXE, 13 VINE, 14 GPIO(WAKEUP), 15 PWROK, 16 IRQ, 17 CLDO3, 18 CLDOIN, 19 CLDO1, 20 CLDO2, 21 SWIN, 22 SWOUT, 23 SCK, 24 SDA, 25 VINT, 26 PHSET, 27 EN/PWRON, 28 ALDO1, 29 VREF, 30 ALDOIN, 31 ALDO2, 32 ALDO3, 33 VINB_1, 34 VINB_2, 35 LXB_1, 36 LXB_2, 37 PGNDB_1, 38 PGNDB_2, 39 DCDCB, 40 DCDCA, 41 PGNDA_2, 42 PGNDA_1, 43 LXA_2, 44 LXA_1, 45 VINA_2, 46 VINA_1, 47 DCDCC, 48 PGNDC_2, 49 PGNDC_1, 50 LXC_2, 51 LXC_1, 52 VINC_2, 53 VINC_1, 54 FBGND, 55 MODESET, 56 DCBSET, 57 GND
text: DCDC A; DCDC B; ALDOs; DCDC C; BLDOs; DCDC D; CLDOs; DCDC E

## AZ1065-06F_0
designator U?, comment AZ1065-06F
pins: 1 I/O-1, 2 VDD, 3 NC1, 4 I/O-2, 5 I/O-3, 6 I/O-4, 7 I/O-5, 8 NC2, 9 GND, 10 I/O-6

## AZ1065-06F_1
designator U?, comment AZ1065-06F
pins: 1 I/O-1, 2 VDD, 3 NC1, 4 I/O-2, 5 I/O-3, 6 I/O-4, 7 I/O-5, 8 NC2, 9 GND, 10 I/O-6, 11 EGND

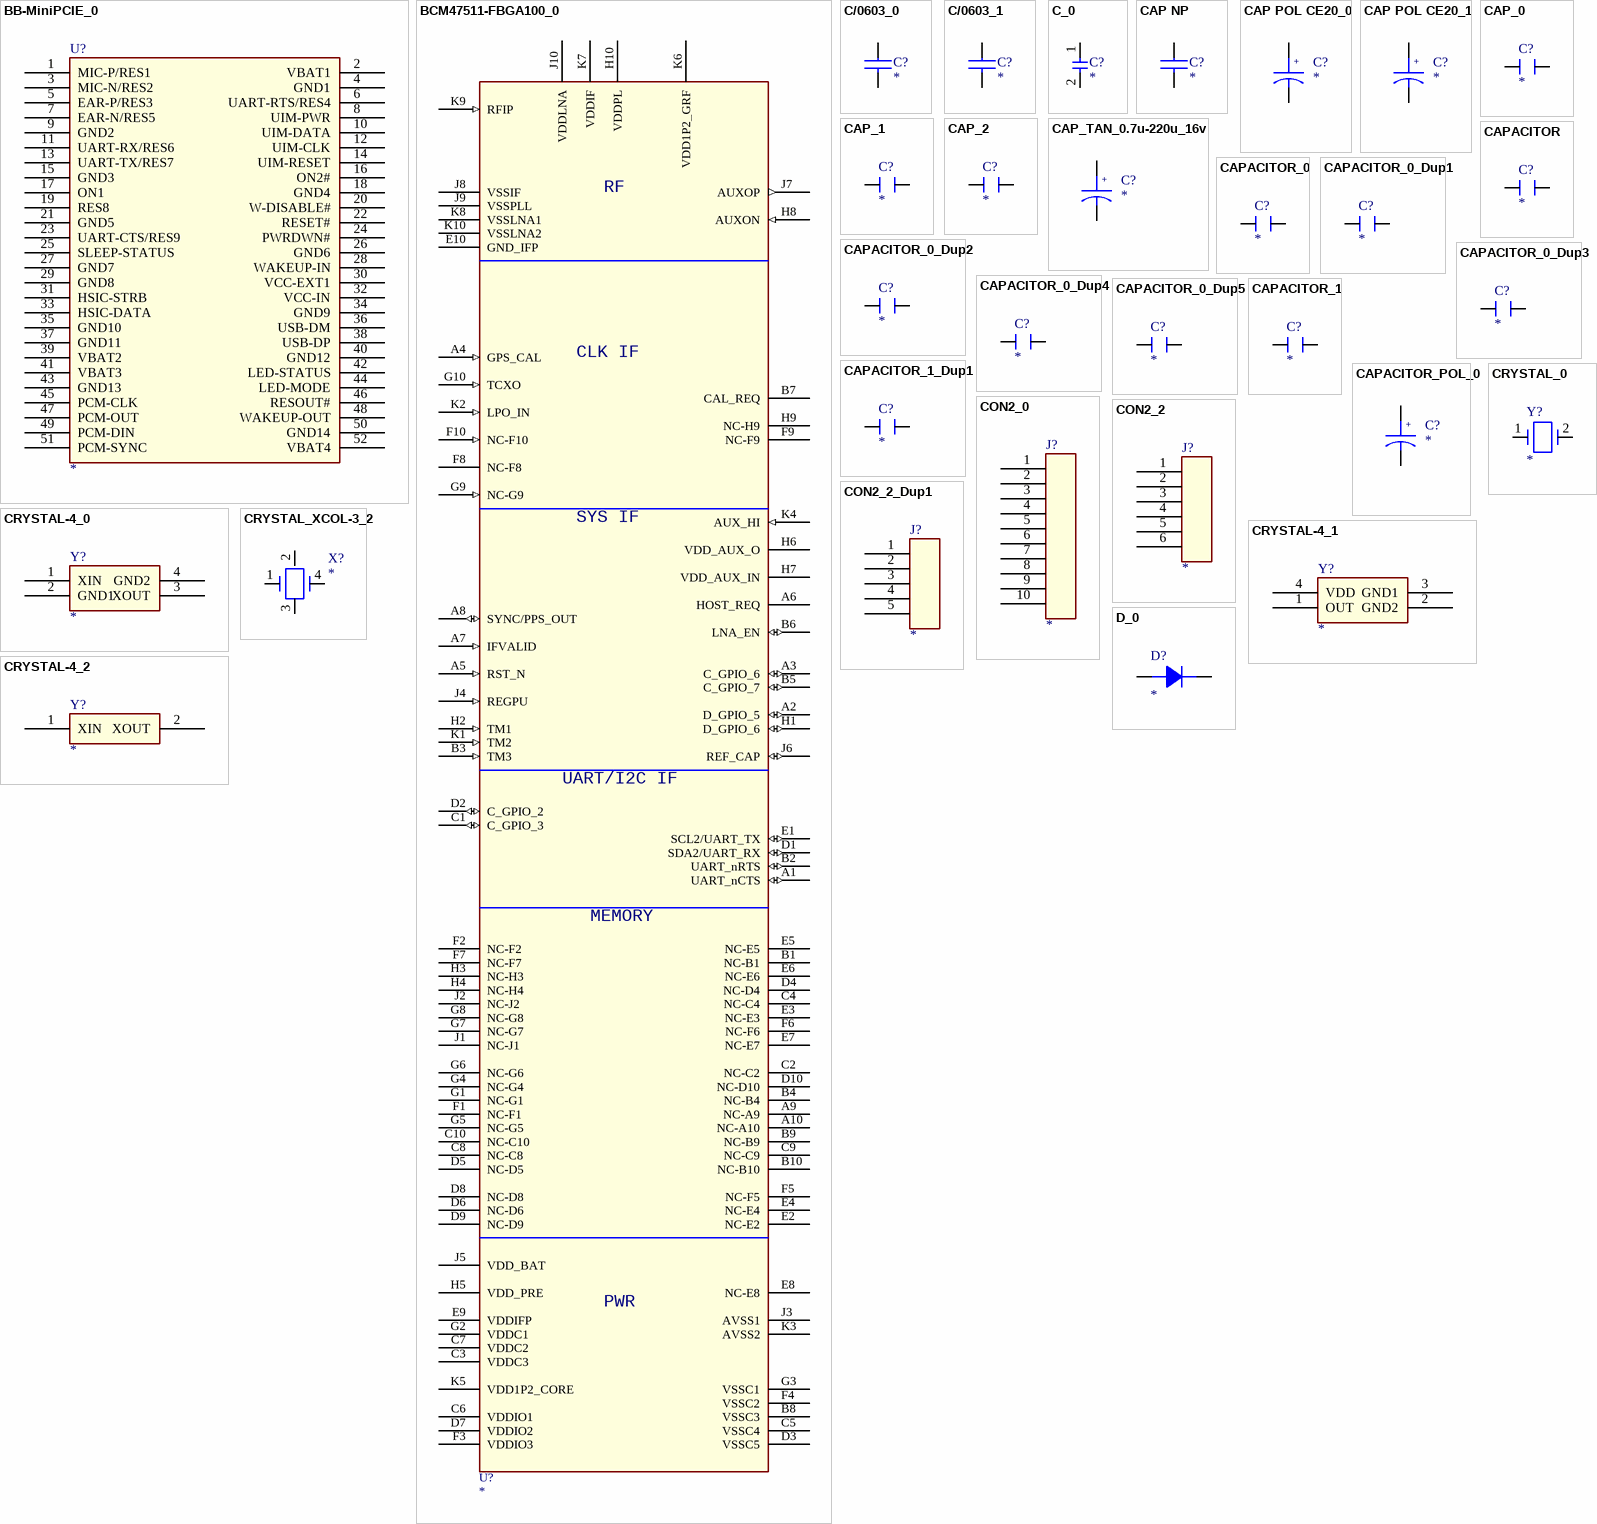
[diagram p8: symbols BB-MiniPCIE_0 to D_0]

## BB-MiniPCIE_0
designator U?
footprint MiniPCIE
pins: 1 MIC-P/RES1, 2 VBAT1, 3 MIC-N/RES2, 4 GND1, 5 EAR-P/RES3, 6 UART-RTS/RES4, 7 EAR-N/RES5, 8 UIM-PWR, 9 GND2, 10 UIM-DATA, 11 UART-RX/RES6, 12 UIM-CLK, 13 UART-TX/RES7, 14 UIM-RESET, 15 GND3, 16 ON2#, 17 ON1, 18 GND4, 19 RES8, 20 W-DISABLE#, 21 GND5, 22 RESET#, 23 UART-CTS/RES9, 24 PWRDWN#, 25 SLEEP-STATUS, 26 GND6, 27 GND7, 28 WAKEUP-IN, 29 GND8, 30 VCC-EXT1, 31 HSIC-STRB, 32 VCC-IN, 33 HSIC-DATA, 34 GND9, 35 GND10, 36 USB-DM, 37 GND11, 38 USB-DP, 39 VBAT2, 40 GND12, 41 VBAT3, 42 LED-STATUS, 43 GND13, 44 LED-MODE, 45 PCM-CLK, 46 RESOUT#, 47 PCM-OUT, 48 WAKEUP-OUT, 49 PCM-DIN, 50 GND14, 51 PCM-SYNC, 52 VBAT4

## BCM47511-FBGA100_0
designator U?
pins: A1 UART_nCTS (io), A2 D_GPIO_5 (io), A3 C_GPIO_6 (io), A4 GPS_CAL (in), A5 RST_N (in), A6 HOST_REQ, A7 IFVALID (in), A8 SYNC/PPS_OUT (io), A9 NC-A9, A10 NC-A10, B1 NC-B1, B2 UART_nRTS (io), B3 TM3 (in), B4 NC-B4, B5 C_GPIO_7 (io), B6 LNA_EN (io), B7 CAL_REQ, B8 VSSC3 (power), B9 NC-B9, B10 NC-B10, C1 C_GPIO_3 (io), C2 NC-C2, C3 VDDC3 (power), C4 NC-C4, C5 VSSC4 (power), C6 VDDIO1 (power), C7 VDDC2 (power), C8 NC-C8, C9 NC-C9, C10 NC-C10, D1 SDA2/UART_RX (io), D2 C_GPIO_2 (io), D3 VSSC5 (power), D4 NC-D4, D5 NC-D5, D6 NC-D6, D7 VDDIO2 (power), D8 NC-D8, D9 NC-D9, D10 NC-D10, E1 SCL2/UART_TX (io), E2 NC-E2, E3 NC-E3, E4 NC-E4, E5 NC-E5, E6 NC-E6, E7 NC-E7, E8 NC-E8, E9 VDDIFP (power), E10 GND_IFP (power), F1 NC-F1, F2 NC-F2, F3 VDDIO3 (power), F4 VSSC2 (power), F5 NC-F5, F6 NC-F6, F7 NC-F7, F8 NC-F8, F9 NC-F9, F10 NC-F10 (in), G1 NC-G1, G2 VDDC1 (power), G3 VSSC1 (power), G4 NC-G4, G5 NC-G5, G6 NC-G6, G7 NC-G7, G8 NC-G8, G9 NC-G9 (in), G10 TCXO (in), H1 D_GPIO_6 (io), H2 TM1 (in), H3 NC-H3, H4 NC-H4, H5 VDD_PRE (power), H6 VDD_AUX_O (power), H7 VDD_AUX_IN (power), H8 AUXON (in), H9 NC-H9, H10 VDDPL (power), J1 NC-J1, J2 NC-J2, J3 AVSS1 (power), J4 REGPU (in), J5 VDD_BAT (power), J6 REF_CAP (io), J7 AUXOP (out), J8 VSSIF (power), J9 VSSPLL (power), J10 VDDLNA (power), K1 TM2 (in), K2 LPO_IN (in), K3 AVSS2 (power), K4 AUX_HI (in), K5 VDD1P2_CORE (power), K6 VDD1P2_GRF (power), K7 VDDIF (power), K8 VSSLNA1 (power), K9 RFIP (in), K10 VSSLNA2 (power)
text: RF; CLK IF; SYS IF; UART/I2C IF; MEMORY; PWR

## C/0603_0
designator C?
footprint 0603
pins: 1, 2

## C/0603_1
designator C?
footprint 0603
pins: 1, 2

## C_0
designator C?
pins: 1, 2

## CAP NP
designator C?
pins: 1, 2

## CAP POL CE20_0
designator C?
footprint CE20
pins: 1, 2
text: +

## CAP POL CE20_1
designator C?
footprint CE20
pins: 1, 2
text: +

## CAP_0
designator C?
footprint 0805
pins: 1, 2

## CAP_1
designator C?
footprint 0805
pins: 1, 2

## CAP_2
designator C?
footprint 0805
pins: 1, 2

## CAP_TAN_0.7u-220u_16v
designator C?
footprint 1210
pins: 1, 2
text: +

## CAPACITOR
designator C?
pins: 1, 2

## CAPACITOR_0
designator C?
pins: 1, 2

## CAPACITOR_0_Dup1
designator C?
pins: 1, 2

## CAPACITOR_0_Dup2
designator C?
pins: 1, 2

## CAPACITOR_0_Dup3
designator C?
pins: 1, 2

## CAPACITOR_0_Dup4
designator C?
pins: 1, 2

## CAPACITOR_0_Dup5
designator C?
pins: 1, 2

## CAPACITOR_1
designator C?
pins: 1, 2

## CAPACITOR_1_Dup1
designator C?
pins: 1, 2

## CAPACITOR_POL_0
designator C?
pins: 1, 2
text: +

## CON2_0
designator J?
pins: 1, 2, 3, 4, 5, 6, 7, 8, 9, 10

## CON2_2
designator J?
pins: 1, 2, 3, 4, 5, 6

## CON2_2_Dup1
designator J?
pins: 1, 2, 3, 4, 5

## CRYSTAL-4_0
designator Y?
footprint CRY-3225
pins: 1 XIN, 2 GND1 (power), 3 XOUT, 4 GND2 (power)

## CRYSTAL-4_1
designator Y?
footprint CRY-3225
pins: 1 OUT (power), 2 GND2 (power), 3 GND1 (power), 4 VDD

## CRYSTAL-4_2
designator Y?
footprint CRY-3225
pins: 1 XIN, 2 XOUT

## CRYSTAL_0
designator Y?
pins: 1, 2

## CRYSTAL_XCOL-3_2
designator X?
footprint XCOL-3
pins: 1, 2, 3 Shield (power), 4

## D_0
designator D?
pins: 1, 2

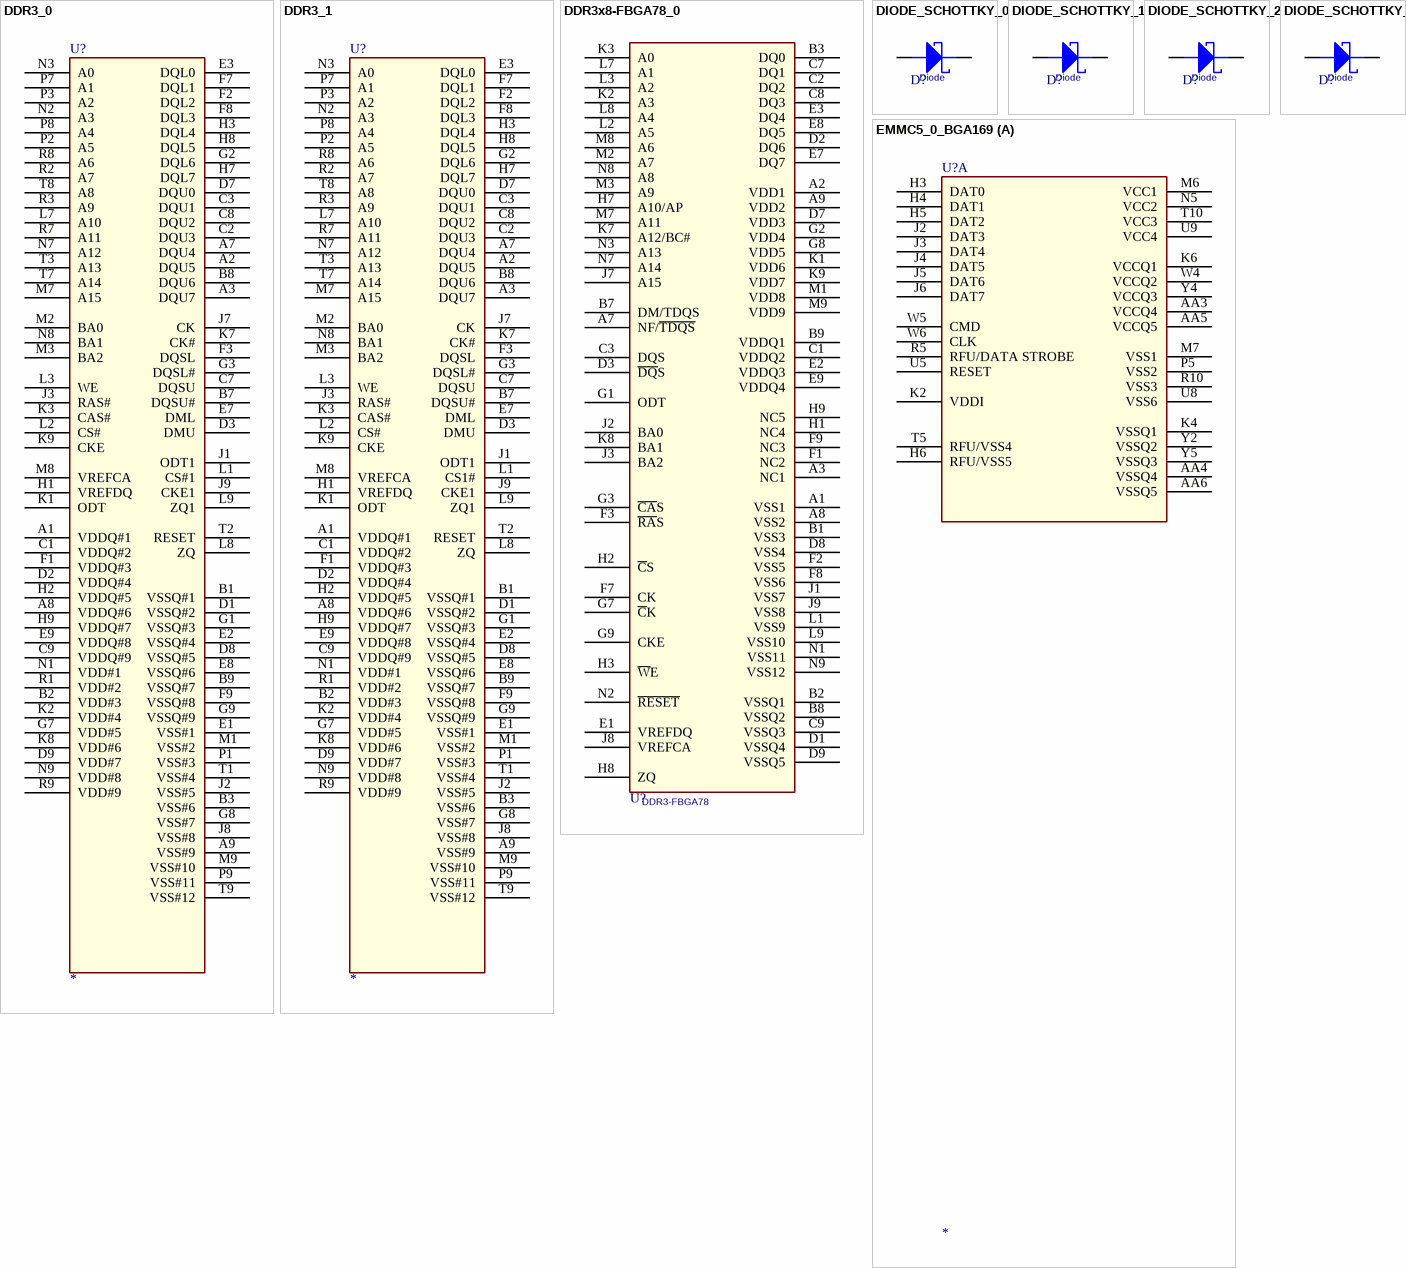
[diagram p9: symbols DDR3_0 to EMMC5_0_BGA169]

## DDR3_0
designator U?
pins: A1 VDDQ#1, A2 DQU5, A3 DQU7, A7 DQU4, A8 VDDQ#6, A9 VSS#9, B1 VSSQ#1, B2 VDD#3, B3 VSS#6, B7 DQSU#, B8 DQU6, B9 VSSQ#7, C1 VDDQ#2, C2 DQU3, C3 DQU1, C7 DQSU, C8 DQU2, C9 VDDQ#9, D1 VSSQ#2, D2 VDDQ#4, D3 DMU, D7 DQU0, D8 VSSQ#5, D9 VDD#7, E1 VSS#1, E2 VSSQ#4, E3 DQL0, E7 DML, E8 VSSQ#6, E9 VDDQ#8, F1 VDDQ#3, F2 DQL2, F3 DQSL, F7 DQL1, F8 DQL3, F9 VSSQ#8, G1 VSSQ#3, G2 DQL6, G3 DQSL#, G7 VDD#5, G8 VSS#7, G9 VSSQ#9, H1 VREFDQ, H2 VDDQ#5, H3 DQL4, H7 DQL7, H8 DQL5, H9 VDDQ#7, J1 ODT1, J2 VSS#5, J3 RAS#, J7 CK, J8 VSS#8, J9 CKE1, K1 ODT, K2 VDD#4, K3 CAS#, K7 CK#, K8 VDD#6, K9 CKE, L1 CS#1, L2 CS#, L3 WE, L7 A10, L8 ZQ, L9 ZQ1, M1 VSS#2, M2 BA0, M3 BA2, M7 A15, M8 VREFCA, M9 VSS#10, N1 VDD#1, N2 A3, N3 A0, N7 A12, N8 BA1, N9 VDD#8, P1 VSS#3, P2 A5, P3 A2, P7 A1, P8 A4, P9 VSS#11, R1 VDD#2, R2 A7, R3 A9, R7 A11, R8 A6, R9 VDD#9, T1 VSS#4, T2 RESET, T3 A13, T7 A14, T8 A8, T9 VSS#12

## DDR3_1
designator U?
pins: A1 VDDQ#1, A2 DQU5, A3 DQU7, A7 DQU4, A8 VDDQ#6, A9 VSS#9, B1 VSSQ#1, B2 VDD#3, B3 VSS#6, B7 DQSU#, B8 DQU6, B9 VSSQ#7, C1 VDDQ#2, C2 DQU3, C3 DQU1, C7 DQSU, C8 DQU2, C9 VDDQ#9, D1 VSSQ#2, D2 VDDQ#4, D3 DMU, D7 DQU0, D8 VSSQ#5, D9 VDD#7, E1 VSS#1, E2 VSSQ#4, E3 DQL0, E7 DML, E8 VSSQ#6, E9 VDDQ#8, F1 VDDQ#3, F2 DQL2, F3 DQSL, F7 DQL1, F8 DQL3, F9 VSSQ#8, G1 VSSQ#3, G2 DQL6, G3 DQSL#, G7 VDD#5, G8 VSS#7, G9 VSSQ#9, H1 VREFDQ, H2 VDDQ#5, H3 DQL4, H7 DQL7, H8 DQL5, H9 VDDQ#7, J1 ODT1, J2 VSS#5, J3 RAS#, J7 CK, J8 VSS#8, J9 CKE1, K1 ODT, K2 VDD#4, K3 CAS#, K7 CK#, K8 VDD#6, K9 CKE, L1 CS1#, L2 CS#, L3 WE, L7 A10, L8 ZQ, L9 ZQ1, M1 VSS#2, M2 BA0, M3 BA2, M7 A15, M8 VREFCA, M9 VSS#10, N1 VDD#1, N2 A3, N3 A0, N7 A12, N8 BA1, N9 VDD#8, P1 VSS#3, P2 A5, P3 A2, P7 A1, P8 A4, P9 VSS#11, R1 VDD#2, R2 A7, R3 A9, R7 A11, R8 A6, R9 VDD#9, T1 VSS#4, T2 RESET, T3 A13, T7 A14, T8 A8, T9 VSS#12

## DDR3x8-FBGA78_0
designator U?, comment DDR3-FBGA78
footprint FBGA78
pins: A1 VSS1, A2 VDD1, A3 NC1, A7 NF/~{TDQS}, A8 VSS2, A9 VDD2, B1 VSS3, B2 VSSQ1, B3 DQ0, B7 DM/TDQS, B8 VSSQ2, B9 VDDQ1, C1 VDDQ2, C2 DQ2, C3 DQS, C7 DQ1, C8 DQ3, C9 VSSQ3, D1 VSSQ4, D2 DQ6, D3 ~{DQ}S, D7 VDD3, D8 VSS4, D9 VSSQ5, E1 VREFDQ, E2 VDDQ3, E3 DQ4, E7 DQ7, E8 DQ5, E9 VDDQ4, F1 NC2, F2 VSS5, F3 ~{RA}S, F7 CK, F8 VSS6, F9 NC3, G1 ODT, G2 VDD4, G3 ~{CA}S, G7 ~{C}K, G8 VDD5, G9 CKE, H1 NC4, H2 ~{C}S, H3 ~{W}E, H7 A10/AP, H8 ZQ, H9 NC5, J1 VSS7, J2 BA0, J3 BA2, J7 A15, J8 VREFCA, J9 VSS8, K1 VDD6, K2 A3, K3 A0, K7 A12/BC#, K8 BA1, K9 VDD7, L1 VSS9, L2 A5, L3 A2, L7 A1, L8 A4, L9 VSS10, M1 VDD8, M2 A7, M3 A9, M7 A11, M8 A6, M9 VDD9, N1 VSS11, N2 ~{RESET}, N3 A13, N7 A14, N8 A8, N9 VSS12

## DIODE_SCHOTTKY_0
designator D?, comment Diode
footprint SOD123
pins: 1, 2

## DIODE_SCHOTTKY_1
designator D?, comment Diode
footprint SOD123
pins: A 1, C 2

## DIODE_SCHOTTKY_2
designator D?, comment Diode
footprint SOD123
pins: A 1, C 2

## DIODE_SCHOTTKY_3
designator D?, comment Diode
footprint SOD123
pins: A, C

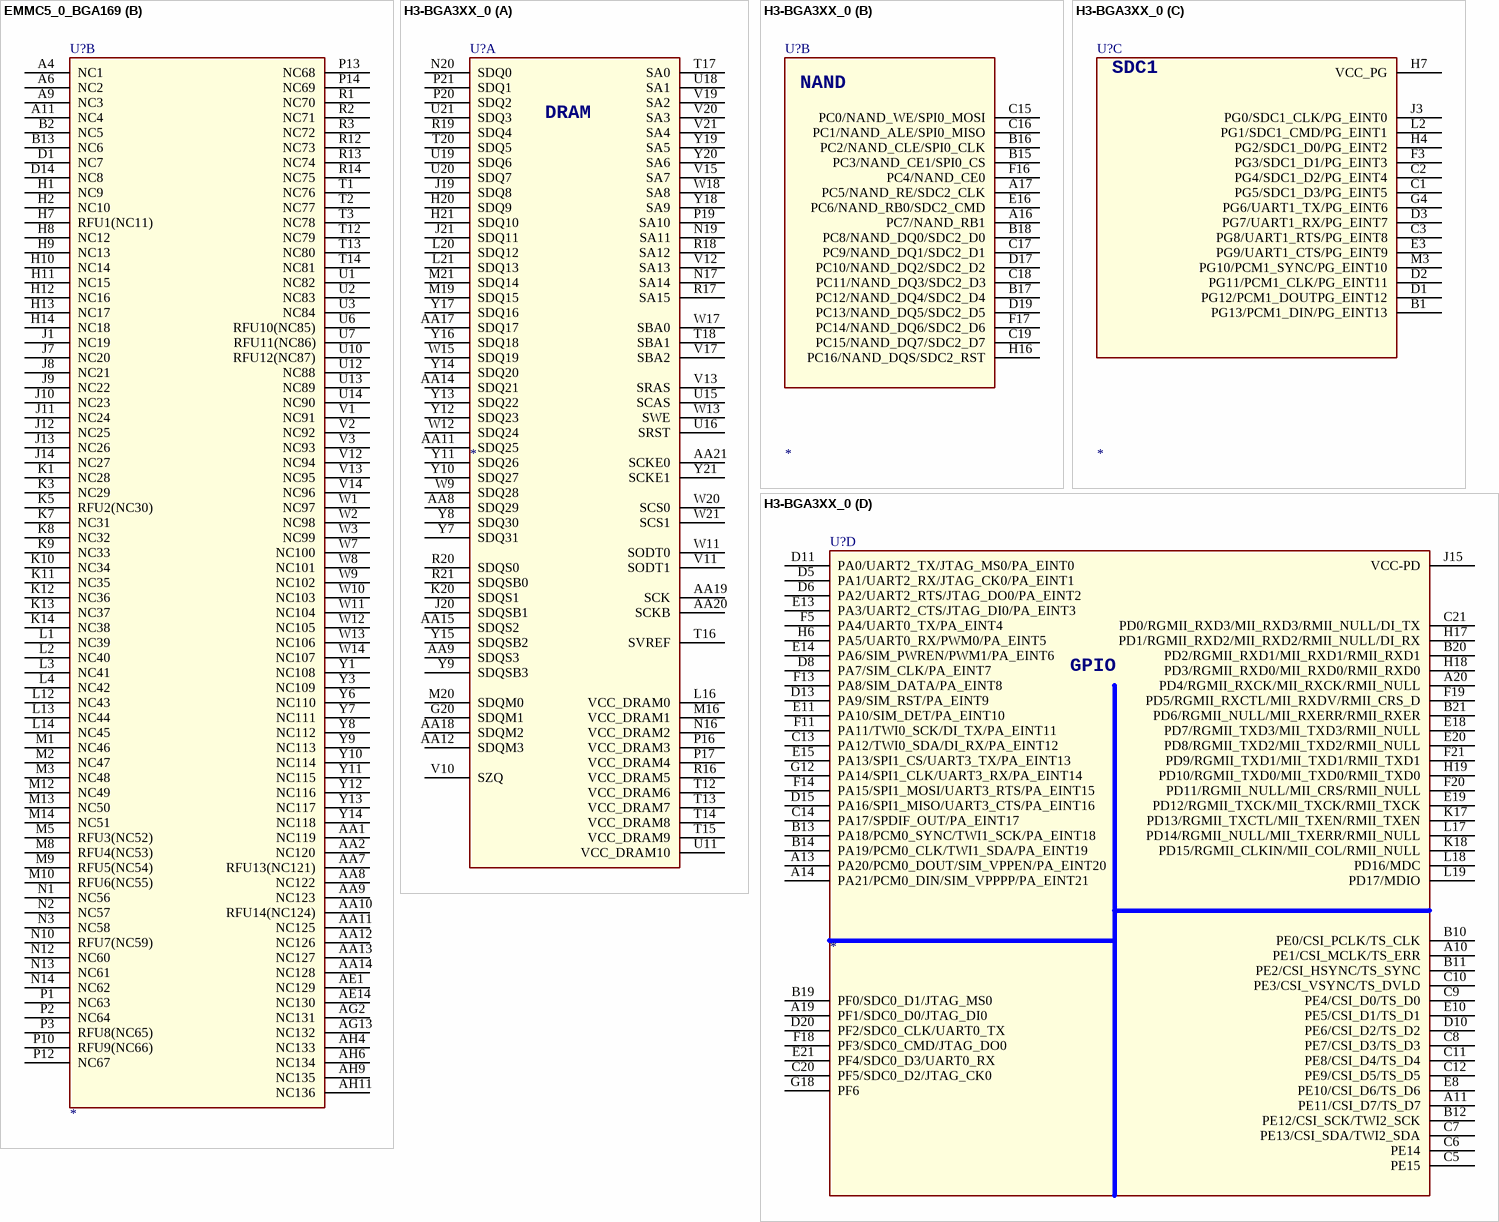
[diagram p10: symbols EMMC5_0_BGA169 to H3-BGA3XX_0]

## EMMC5_0_BGA169
designator U?
footprint BGA169P0_50B12_00X16_00H1_00
part A pins: AA3 VCCQ4, AA4 VSSQ4, AA5 VCCQ5, AA6 VSSQ5, H3 DAT0, H4 DAT1, H5 DAT2, H6 RFU/VSS5, J2 DAT3, J3 DAT4, J4 DAT5, J5 DAT6, J6 DAT7, K2 VDDI, K4 VSSQ1, K6 VCCQ1, M6 VCC1, M7 VSS1, N5 VCC2, P5 VSS2, R5 RFU/DATA STROBE, R10 VSS3, T5 RFU/VSS4, T10 VCC3, U5 RESET, U8 VSS6, U9 VCC4, W4 VCCQ2, W5 CMD, W6 CLK, Y2 VSSQ2, Y4 VCCQ3, Y5 VSSQ3
part B pins: A4 NC1, A6 NC2, A9 NC3, A11 NC4, AA1 NC119, AA2 NC120, AA7 RFU13(NC121), AA8 NC122, AA9 NC123, AA10 RFU14(NC124), AA11 NC125, AA12 NC126, AA13 NC127, AA14 NC128, AE1 NC129, AE14 NC130, AG2 NC131, AG13 NC132, AH4 NC133, AH6 NC134, AH9 NC135, AH11 NC136, B2 NC5, B13 NC6, D1 NC7, D14 NC8, H1 NC9, H2 NC10, H7 RFU1(NC11), H8 NC12, H9 NC13, H10 NC14, H11 NC15, H12 NC16, H13 NC17, H14 NC18, J1 NC19, J7 NC20, J8 NC21, J9 NC22, J10 NC23, J11 NC24, J12 NC25, J13 NC26, J14 NC27, K1 NC28, K3 NC29, K5 RFU2(NC30), K7 NC31, K8 NC32, K9 NC33, K10 NC34, K11 NC35, K12 NC36, K13 NC37, K14 NC38, L1 NC39, L2 NC40, L3 NC41, L4 NC42, L12 NC43, L13 NC44, L14 NC45, M1 NC46, M2 NC47, M3 NC48, M5 RFU3(NC52), M8 RFU4(NC53), M9 RFU5(NC54), M10 RFU6(NC55), M12 NC49, M13 NC50, M14 NC51, N1 NC56, N2 NC57, N3 NC58, N10 RFU7(NC59), N12 NC60, N13 NC61, N14 NC62, P1 NC63, P2 NC64, P3 RFU8(NC65), P10 RFU9(NC66), P12 NC67, P13 NC68, P14 NC69, R1 NC70, R2 NC71, R3 NC72, R12 NC73, R13 NC74, R14 NC75, T1 NC76, T2 NC77, T3 NC78, T12 NC79, T13 NC80, T14 NC81, U1 NC82, U2 NC83, U3 NC84, U6 RFU10(NC85), U7 RFU11(NC86), U10 RFU12(NC87), U12 NC88, U13 NC89, U14 NC90, V1 NC91, V2 NC92, V3 NC93, V12 NC94, V13 NC95, V14 NC96, W1 NC97, W2 NC98, W3 NC99, W7 NC100, W8 NC101, W9 NC102, W10 NC103, W11 NC104, W12 NC105, W13 NC106, W14 NC107, Y1 NC108, Y3 NC109, Y6 NC110, Y7 NC111, Y8 NC112, Y9 NC113, Y10 NC114, Y11 NC115, Y12 NC116, Y13 NC117, Y14 NC118

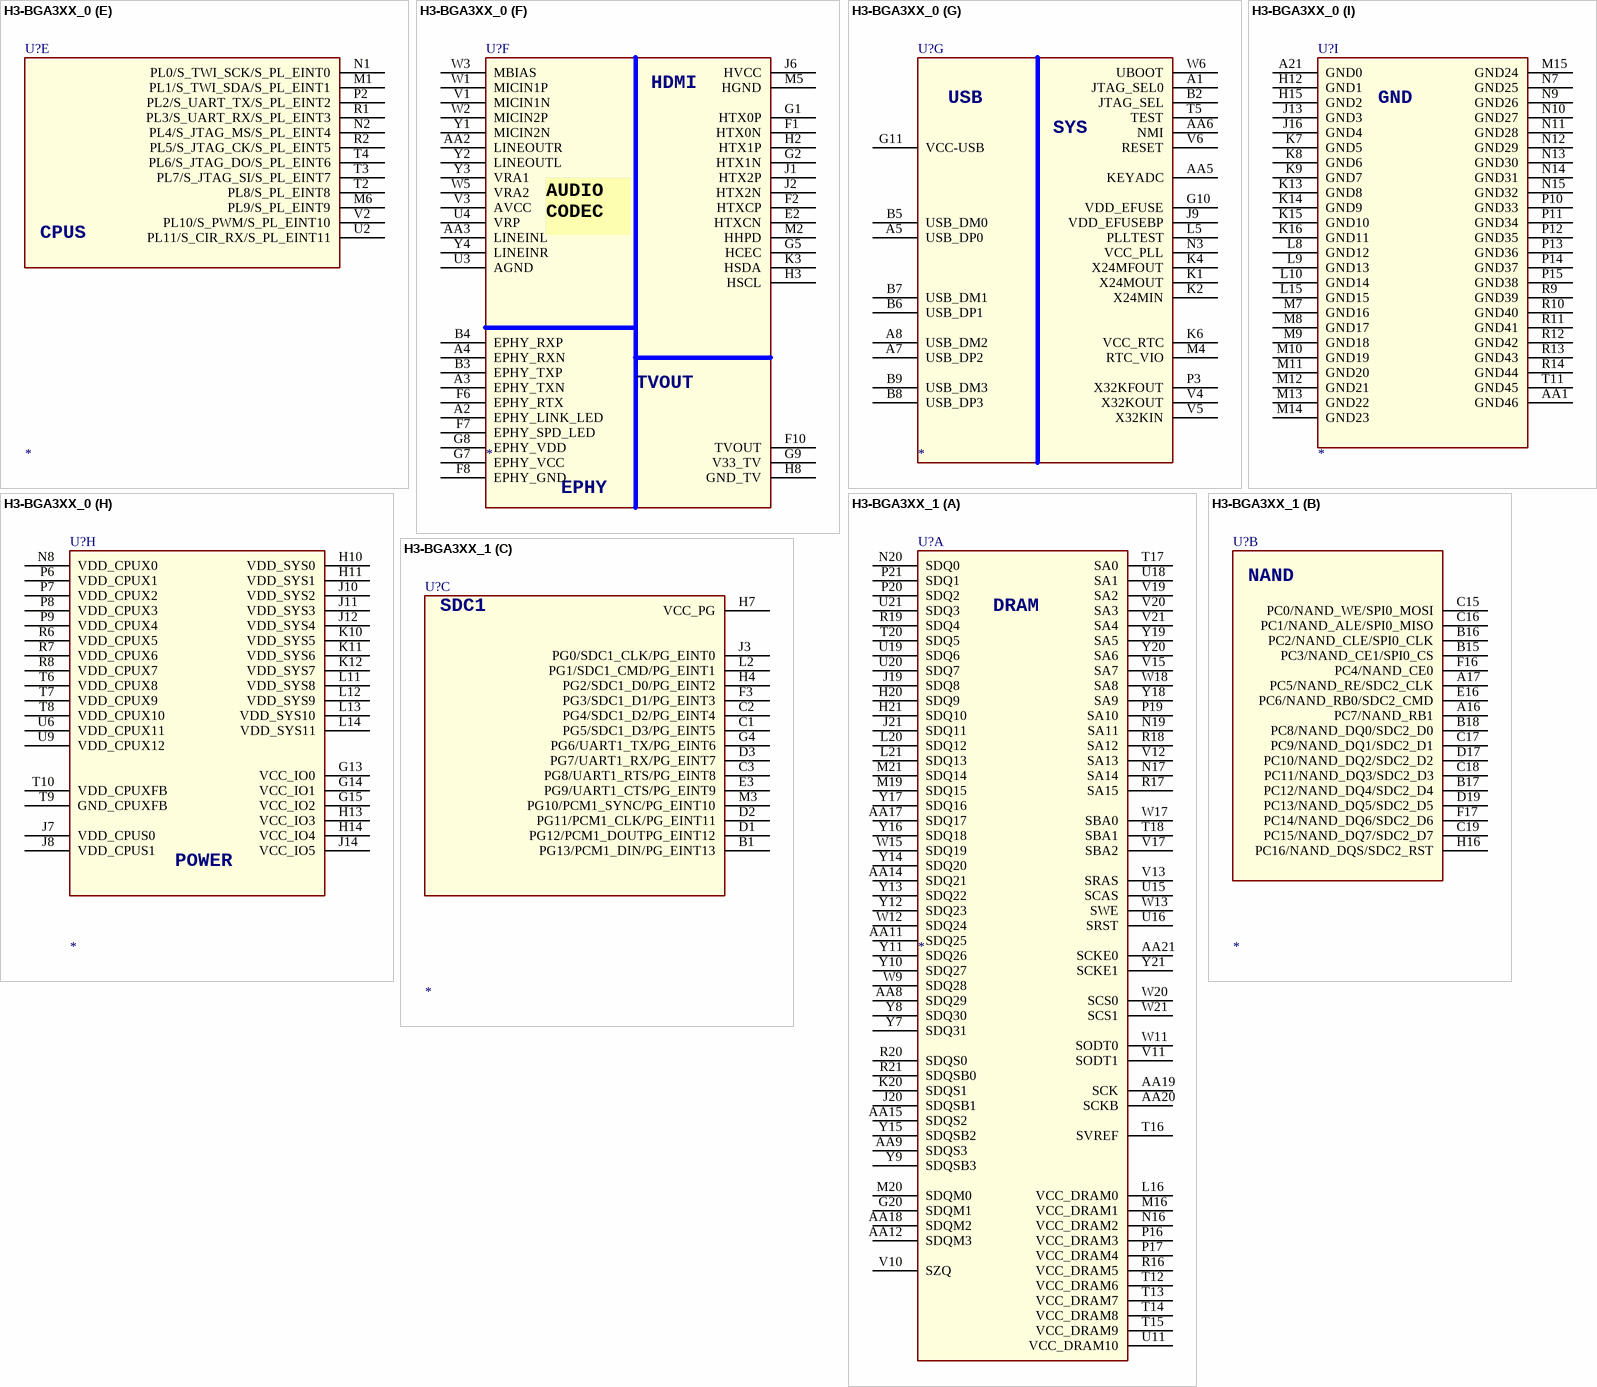
[diagram p11: symbols H3-BGA3XX_0 to H3-BGA3XX_1]

## H3-BGA3XX_0
designator U?
footprint BGA347P0_65B14X14
part A pins: AA8 SDQ29, AA9 SDQS3, AA11 SDQ25, AA12 SDQM3, AA14 SDQ21, AA15 SDQS2, AA17 SDQ17, AA18 SDQM2, AA19 SCK, AA20 SCKB, AA21 SCKE0, G20 SDQM1, H20 SDQ9, H21 SDQ10, J19 SDQ8, J20 SDQSB1, J21 SDQ11, K20 SDQS1, L16 VCC_DRAM0, L20 SDQ12, L21 SDQ13, M16 VCC_DRAM1, M19 SDQ15, M20 SDQM0, M21 SDQ14, N16 VCC_DRAM2, N17 SA14, N19 SA11, N20 SDQ0, P16 VCC_DRAM3, P17 VCC_DRAM4, P19 SA10, P20 SDQ2, P21 SDQ1, R16 VCC_DRAM5, R17 SA15, R18 SA12, R19 SDQ4, R20 SDQS0, R21 SDQSB0, T12 VCC_DRAM6, T13 VCC_DRAM7, T14 VCC_DRAM8, T15 VCC_DRAM9, T16 SVREF, T17 SA0, T18 SBA1, T20 SDQ5, U11 VCC_DRAM10, U15 SCAS, U16 SRST, U18 SA1, U19 SDQ6, U20 SDQ7, U21 SDQ3, V10 SZQ, V11 SODT1, V12 SA13, V13 SRAS, V15 SA7, V17 SBA2, V19 SA2, V20 SA3, V21 SA4, W9 SDQ28, W11 SODT0, W12 SDQ24, W13 SWE, W15 SDQ19, W17 SBA0, W18 SA8, W20 SCS0, W21 SCS1, Y7 SDQ31, Y8 SDQ30, Y9 SDQSB3, Y10 SDQ27, Y11 SDQ26, Y12 SDQ23, Y13 SDQ22, Y14 SDQ20, Y15 SDQSB2, Y16 SDQ18, Y17 SDQ16, Y18 SA9, Y19 SA5, Y20 SA6, Y21 SCKE1
part B pins: A16 PC7/NAND_RB1, A17 PC5/NAND_RE/SDC2_CLK, B15 PC3/NAND_CE1/SPI0_CS, B16 PC2/NAND_CLE/SPI0_CLK, B17 PC12/NAND_DQ4/SDC2_D4, B18 PC8/NAND_DQ0/SDC2_D0, C15 PC0/NAND_WE/SPI0_MOSI, C16 PC1/NAND_ALE/SPI0_MISO, C17 PC9/NAND_DQ1/SDC2_D1, C18 PC11/NAND_DQ3/SDC2_D3, C19 PC15/NAND_DQ7/SDC2_D7, D17 PC10/NAND_DQ2/SDC2_D2, D19 PC13/NAND_DQ5/SDC2_D5, E16 PC6/NAND_RB0/SDC2_CMD, F16 PC4/NAND_CE0, F17 PC14/NAND_DQ6/SDC2_D6, H16 PC16/NAND_DQS/SDC2_RST
part C pins: B1 PG13/PCM1_DIN/PG_EINT13, C1 PG5/SDC1_D3/PG_EINT5, C2 PG4/SDC1_D2/PG_EINT4, C3 PG8/UART1_RTS/PG_EINT8, D1 PG12/PCM1_DOUTPG_EINT12, D2 PG11/PCM1_CLK/PG_EINT11, D3 PG7/UART1_RX/PG_EINT7, E3 PG9/UART1_CTS/PG_EINT9, F3 PG3/SDC1_D1/PG_EINT3, G4 PG6/UART1_TX/PG_EINT6, H4 PG2/SDC1_D0/PG_EINT2, H7 VCC_PG, J3 PG0/SDC1_CLK/PG_EINT0, L2 PG1/SDC1_CMD/PG_EINT1, M3 PG10/PCM1_SYNC/PG_EINT10
part D pins: A10 PE1/CSI_MCLK/TS_ERR, A11 PE11/CSI_D7/TS_D7, A13 PA20/PCM0_DOUT/SIM_VPPEN/PA_EINT20, A14 PA21/PCM0_DIN/SIM_VPPPP/PA_EINT21, A19 PF1/SDC0_D0/JTAG_DI0, A20 PD4/RGMII_RXCK/MII_RXCK/RMII_NULL, B10 PE0/CSI_PCLK/TS_CLK, B11 PE2/CSI_HSYNC/TS_SYNC, B12 PE12/CSI_SCK/TWI2_SCK, B13 PA18/PCM0_SYNC/TWI1_SCK/PA_EINT18, B14 PA19/PCM0_CLK/TWI1_SDA/PA_EINT19, B19 PF0/SDC0_D1/JTAG_MS0, B20 PD2/RGMII_RXD1/MII_RXD1/RMII_RXD1, B21 PD6/RGMII_NULL/MII_RXERR/RMII_RXER, C5 PE15, C6 PE14, C7 PE13/CSI_SDA/TWI2_SDA, C8 PE7/CSI_D3/TS_D3, C9 PE4/CSI_D0/TS_D0, C10 PE3/CSI_VSYNC/TS_DVLD, C11 PE8/CSI_D4/TS_D4, C12 PE9/CSI_D5/TS_D5, C13 PA12/TWI0_SDA/DI_RX/PA_EINT12, C14 PA17/SPDIF_OUT/PA_EINT17, C20 PF5/SDC0_D2/JTAG_CK0, C21 PD0/RGMII_RXD3/MII_RXD3/RMII_NULL/DI_TX, D5 PA1/UART2_RX/JTAG_CK0/PA_EINT1, D6 PA2/UART2_RTS/JTAG_DO0/PA_EINT2, D8 PA7/SIM_CLK/PA_EINT7, D10 PE6/CSI_D2/TS_D2, D11 PA0/UART2_TX/JTAG_MS0/PA_EINT0, D13 PA9/SIM_RST/PA_EINT9, D15 PA16/SPI1_MISO/UART3_CTS/PA_EINT16, D20 PF2/SDC0_CLK/UART0_TX, E8 PE10/CSI_D6/TS_D6, E10 PE5/CSI_D1/TS_D1, E11 PA10/SIM_DET/PA_EINT10, E13 PA3/UART2_CTS/JTAG_DI0/PA_EINT3, E14 PA6/SIM_PWREN/PWM1/PA_EINT6, E15 PA13/SPI1_CS/UART3_TX/PA_EINT13, E18 PD7/RGMII_TXD3/MII_TXD3/RMII_NULL, E19 PD12/RGMII_TXCK/MII_TXCK/RMII_TXCK, E20 PD8/RGMII_TXD2/MII_TXD2/RMII_NULL, E21 PF4/SDC0_D3/UART0_RX, F5 PA4/UART0_TX/PA_EINT4, F11 PA11/TWI0_SCK/DI_TX/PA_EINT11, F13 PA8/SIM_DATA/PA_EINT8, F14 PA15/SPI1_MOSI/UART3_RTS/PA_EINT15, F18 PF3/SDC0_CMD/JTAG_DO0, F19 PD5/RGMII_RXCTL/MII_RXDV/RMII_CRS_D, F20 PD11/RGMII_NULL/MII_CRS/RMII_NULL, F21 PD9/RGMII_TXD1/MII_TXD1/RMII_TXD1, G12 PA14/SPI1_CLK/UART3_RX/PA_EINT14, G18 PF6, H6 PA5/UART0_RX/PWM0/PA_EINT5, H17 PD1/RGMII_RXD2/MII_RXD2/RMII_NULL/DI_RX, H18 PD3/RGMII_RXD0/MII_RXD0/RMII_RXD0, H19 PD10/RGMII_TXD0/MII_TXD0/RMII_TXD0, J15 VCC-PD, K17 PD13/RGMII_TXCTL/MII_TXEN/RMII_TXEN, K18 PD15/RGMII_CLKIN/MII_COL/RMII_NULL, L17 PD14/RGMII_NULL/MII_TXERR/RMII_NULL, L18 PD16/MDC, L19 PD17/MDIO
part E pins: M1 PL1/S_TWI_SDA/S_PL_EINT1, M6 PL9/S_PL_EINT9, N1 PL0/S_TWI_SCK/S_PL_EINT0, N2 PL4/S_JTAG_MS/S_PL_EINT4, P2 PL2/S_UART_TX/S_PL_EINT2, R1 PL3/S_UART_RX/S_PL_EINT3, R2 PL5/S_JTAG_CK/S_PL_EINT5, T2 PL8/S_PL_EINT8, T3 PL7/S_JTAG_SI/S_PL_EINT7, T4 PL6/S_JTAG_DO/S_PL_EINT6, U2 PL11/S_CIR_RX/S_PL_EINT11, V2 PL10/S_PWM/S_PL_EINT10
part F pins: A2 EPHY_LINK_LED, A3 EPHY_TXN, A4 EPHY_RXN, AA2 LINEOUTR, AA3 LINEINL, B3 EPHY_TXP, B4 EPHY_RXP, E2 HTXCN, F1 HTX0N, F2 HTXCP, F6 EPHY_RTX, F7 EPHY_SPD_LED, F8 EPHY_GND, F10 TVOUT, G1 HTX0P, G2 HTX1N, G5 HCEC, G7 EPHY_VCC, G8 EPHY_VDD, G9 V33_TV, H2 HTX1P, H3 HSCL, H8 GND_TV, J1 HTX2P, J2 HTX2N, J6 HVCC, K3 HSDA, M2 HHPD, M5 HGND, U3 AGND, U4 VRP, V1 MICIN1N, V3 AVCC, W1 MICIN1P, W2 MICIN2P, W3 MBIAS, W5 VRA2, Y1 MICIN2N, Y2 LINEOUTL, Y3 VRA1, Y4 LINEINR
part G pins: A1 JTAG_SEL0, A5 USB_DP0, A7 USB_DP2, A8 USB_DM2, AA5 KEYADC, AA6 NMI, B2 JTAG_SEL, B5 USB_DM0, B6 USB_DP1, B7 USB_DM1, B8 USB_DP3, B9 USB_DM3, G10 VDD_EFUSE, G11 VCC-USB, J9 VDD_EFUSEBP, K1 X24MOUT, K2 X24MIN, K4 X24MFOUT, K6 VCC_RTC, L5 PLLTEST, M4 RTC_VIO, N3 VCC_PLL, P3 X32KFOUT, T5 TEST, V4 X32KOUT, V5 X32KIN, V6 RESET, W6 UBOOT
part H pins: G13 VCC_IO0, G14 VCC_IO1, G15 VCC_IO2, H10 VDD_SYS0, H11 VDD_SYS1, H13 VCC_IO3, H14 VCC_IO4, J7 VDD_CPUS0, J8 VDD_CPUS1, J10 VDD_SYS2, J11 VDD_SYS3, J12 VDD_SYS4, J14 VCC_IO5, K10 VDD_SYS5, K11 VDD_SYS6, K12 VDD_SYS7, L11 VDD_SYS8, L12 VDD_SYS9, L13 VDD_SYS10, L14 VDD_SYS11, N8 VDD_CPUX0, P6 VDD_CPUX1, P7 VDD_CPUX2, P8 VDD_CPUX3, P9 VDD_CPUX4, R6 VDD_CPUX5, R7 VDD_CPUX6, R8 VDD_CPUX7, T6 VDD_CPUX8, T7 VDD_CPUX9, T8 VDD_CPUX10, T9 GND_CPUXFB, T10 VDD_CPUXFB, U6 VDD_CPUX11, U9 VDD_CPUX12
part I pins: A21 GND0, AA1 GND46, H12 GND1, H15 GND2, J13 GND3, J16 GND4, K7 GND5, K8 GND6, K9 GND7, K13 GND8, K14 GND9, K15 GND10, K16 GND11, L8 GND12, L9 GND13, L10 GND14, L15 GND15, M7 GND16, M8 GND17, M9 GND18, M10 GND19, M11 GND20, M12 GND21, M13 GND22, M14 GND23, M15 GND24, N7 GND25, N9 GND26, N10 GND27, N11 GND28, N12 GND29, N13 GND30, N14 GND31, N15 GND32, P10 GND33, P11 GND34, P12 GND35, P13 GND36, P14 GND37, P15 GND38, R9 GND39, R10 GND40, R11 GND41, R12 GND42, R13 GND43, R14 GND44, T11 GND45
part A text: DRAM
part B text: NAND
part C text: SDC1
part D text: GPIO
part E text: CPUS
part F text: HDMI; AUDIO / CODEC; EPHY
part G text: USB; SYS
part H text: POWER
part I text: GND

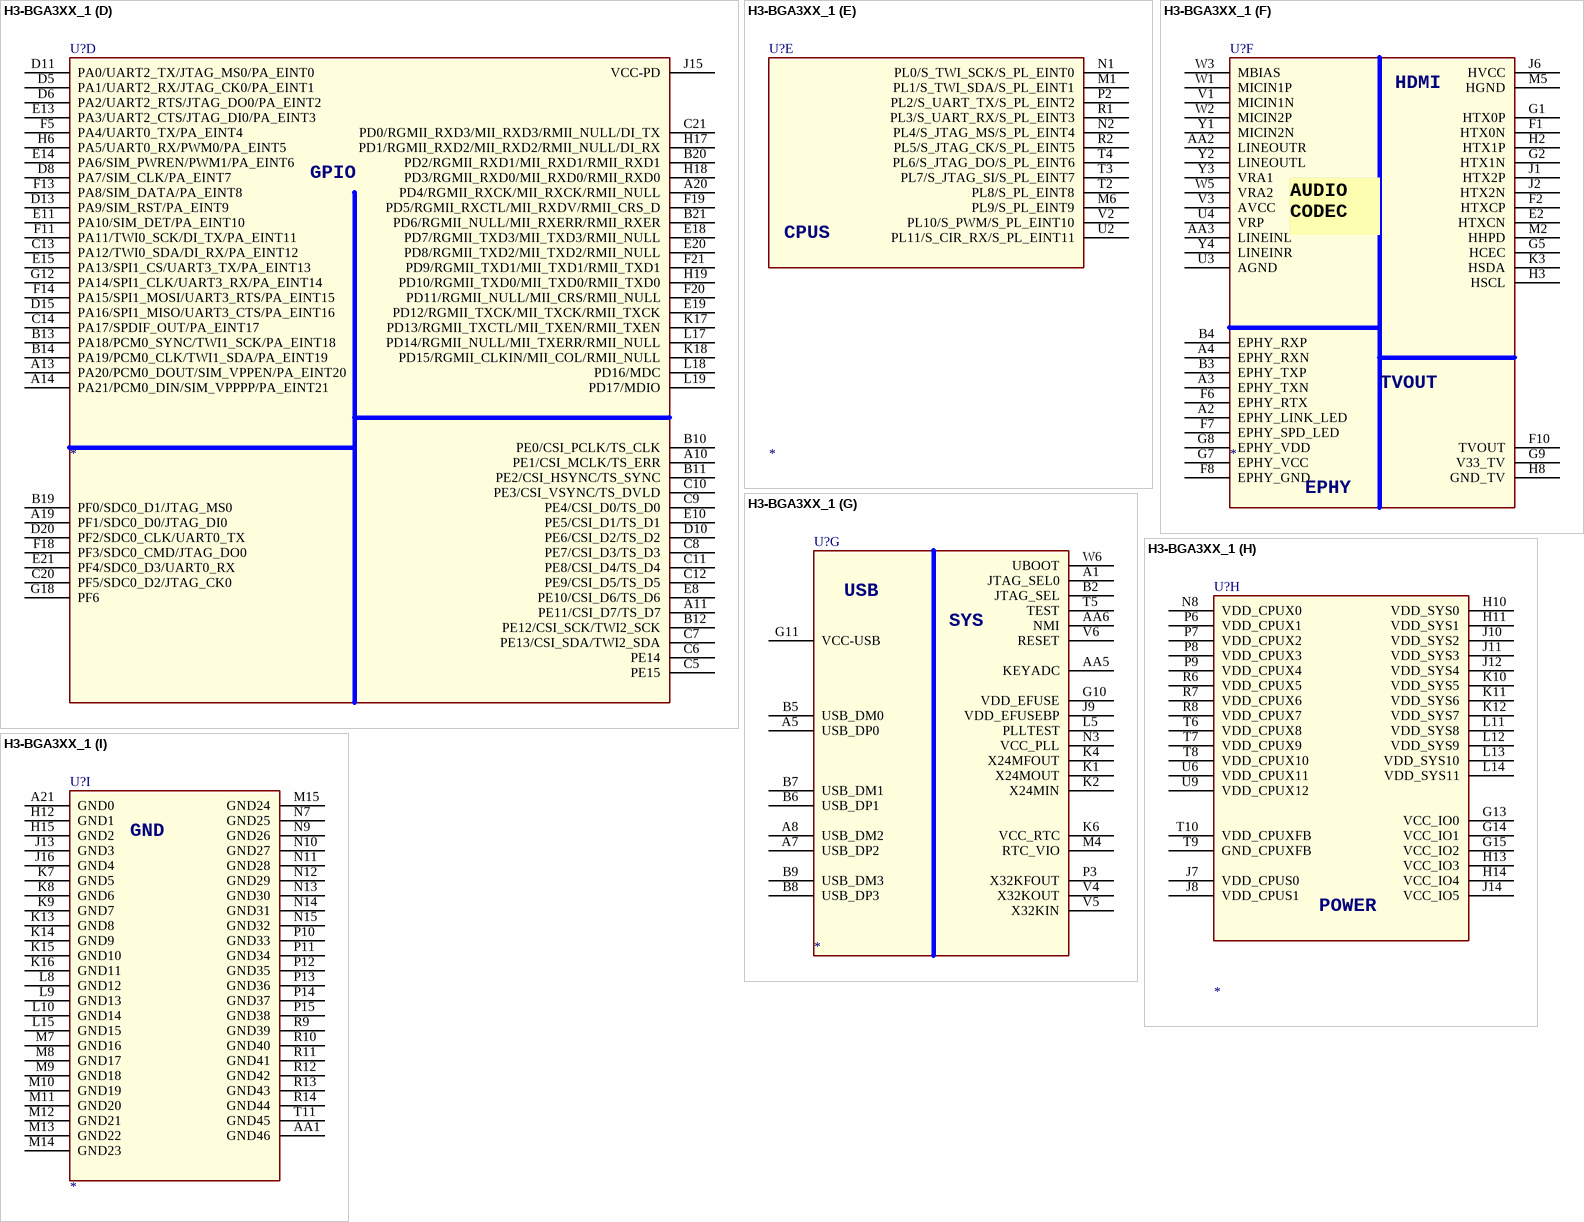
[diagram p12: symbol H3-BGA3XX_1]

## H3-BGA3XX_1
designator U?
footprint BGA347P0_65B14X14
part A pins: AA8 SDQ29, AA9 SDQS3, AA11 SDQ25, AA12 SDQM3, AA14 SDQ21, AA15 SDQS2, AA17 SDQ17, AA18 SDQM2, AA19 SCK, AA20 SCKB, AA21 SCKE0, G20 SDQM1, H20 SDQ9, H21 SDQ10, J19 SDQ8, J20 SDQSB1, J21 SDQ11, K20 SDQS1, L16 VCC_DRAM0, L20 SDQ12, L21 SDQ13, M16 VCC_DRAM1, M19 SDQ15, M20 SDQM0, M21 SDQ14, N16 VCC_DRAM2, N17 SA14, N19 SA11, N20 SDQ0, P16 VCC_DRAM3, P17 VCC_DRAM4, P19 SA10, P20 SDQ2, P21 SDQ1, R16 VCC_DRAM5, R17 SA15, R18 SA12, R19 SDQ4, R20 SDQS0, R21 SDQSB0, T12 VCC_DRAM6, T13 VCC_DRAM7, T14 VCC_DRAM8, T15 VCC_DRAM9, T16 SVREF, T17 SA0, T18 SBA1, T20 SDQ5, U11 VCC_DRAM10, U15 SCAS, U16 SRST, U18 SA1, U19 SDQ6, U20 SDQ7, U21 SDQ3, V10 SZQ, V11 SODT1, V12 SA13, V13 SRAS, V15 SA7, V17 SBA2, V19 SA2, V20 SA3, V21 SA4, W9 SDQ28, W11 SODT0, W12 SDQ24, W13 SWE, W15 SDQ19, W17 SBA0, W18 SA8, W20 SCS0, W21 SCS1, Y7 SDQ31, Y8 SDQ30, Y9 SDQSB3, Y10 SDQ27, Y11 SDQ26, Y12 SDQ23, Y13 SDQ22, Y14 SDQ20, Y15 SDQSB2, Y16 SDQ18, Y17 SDQ16, Y18 SA9, Y19 SA5, Y20 SA6, Y21 SCKE1
part B pins: A16 PC7/NAND_RB1, A17 PC5/NAND_RE/SDC2_CLK, B15 PC3/NAND_CE1/SPI0_CS, B16 PC2/NAND_CLE/SPI0_CLK, B17 PC12/NAND_DQ4/SDC2_D4, B18 PC8/NAND_DQ0/SDC2_D0, C15 PC0/NAND_WE/SPI0_MOSI, C16 PC1/NAND_ALE/SPI0_MISO, C17 PC9/NAND_DQ1/SDC2_D1, C18 PC11/NAND_DQ3/SDC2_D3, C19 PC15/NAND_DQ7/SDC2_D7, D17 PC10/NAND_DQ2/SDC2_D2, D19 PC13/NAND_DQ5/SDC2_D5, E16 PC6/NAND_RB0/SDC2_CMD, F16 PC4/NAND_CE0, F17 PC14/NAND_DQ6/SDC2_D6, H16 PC16/NAND_DQS/SDC2_RST
part C pins: B1 PG13/PCM1_DIN/PG_EINT13, C1 PG5/SDC1_D3/PG_EINT5, C2 PG4/SDC1_D2/PG_EINT4, C3 PG8/UART1_RTS/PG_EINT8, D1 PG12/PCM1_DOUTPG_EINT12, D2 PG11/PCM1_CLK/PG_EINT11, D3 PG7/UART1_RX/PG_EINT7, E3 PG9/UART1_CTS/PG_EINT9, F3 PG3/SDC1_D1/PG_EINT3, G4 PG6/UART1_TX/PG_EINT6, H4 PG2/SDC1_D0/PG_EINT2, H7 VCC_PG, J3 PG0/SDC1_CLK/PG_EINT0, L2 PG1/SDC1_CMD/PG_EINT1, M3 PG10/PCM1_SYNC/PG_EINT10
part D pins: A10 PE1/CSI_MCLK/TS_ERR, A11 PE11/CSI_D7/TS_D7, A13 PA20/PCM0_DOUT/SIM_VPPEN/PA_EINT20, A14 PA21/PCM0_DIN/SIM_VPPPP/PA_EINT21, A19 PF1/SDC0_D0/JTAG_DI0, A20 PD4/RGMII_RXCK/MII_RXCK/RMII_NULL, B10 PE0/CSI_PCLK/TS_CLK, B11 PE2/CSI_HSYNC/TS_SYNC, B12 PE12/CSI_SCK/TWI2_SCK, B13 PA18/PCM0_SYNC/TWI1_SCK/PA_EINT18, B14 PA19/PCM0_CLK/TWI1_SDA/PA_EINT19, B19 PF0/SDC0_D1/JTAG_MS0, B20 PD2/RGMII_RXD1/MII_RXD1/RMII_RXD1, B21 PD6/RGMII_NULL/MII_RXERR/RMII_RXER, C5 PE15, C6 PE14, C7 PE13/CSI_SDA/TWI2_SDA, C8 PE7/CSI_D3/TS_D3, C9 PE4/CSI_D0/TS_D0, C10 PE3/CSI_VSYNC/TS_DVLD, C11 PE8/CSI_D4/TS_D4, C12 PE9/CSI_D5/TS_D5, C13 PA12/TWI0_SDA/DI_RX/PA_EINT12, C14 PA17/SPDIF_OUT/PA_EINT17, C20 PF5/SDC0_D2/JTAG_CK0, C21 PD0/RGMII_RXD3/MII_RXD3/RMII_NULL/DI_TX, D5 PA1/UART2_RX/JTAG_CK0/PA_EINT1, D6 PA2/UART2_RTS/JTAG_DO0/PA_EINT2, D8 PA7/SIM_CLK/PA_EINT7, D10 PE6/CSI_D2/TS_D2, D11 PA0/UART2_TX/JTAG_MS0/PA_EINT0, D13 PA9/SIM_RST/PA_EINT9, D15 PA16/SPI1_MISO/UART3_CTS/PA_EINT16, D20 PF2/SDC0_CLK/UART0_TX, E8 PE10/CSI_D6/TS_D6, E10 PE5/CSI_D1/TS_D1, E11 PA10/SIM_DET/PA_EINT10, E13 PA3/UART2_CTS/JTAG_DI0/PA_EINT3, E14 PA6/SIM_PWREN/PWM1/PA_EINT6, E15 PA13/SPI1_CS/UART3_TX/PA_EINT13, E18 PD7/RGMII_TXD3/MII_TXD3/RMII_NULL, E19 PD12/RGMII_TXCK/MII_TXCK/RMII_TXCK, E20 PD8/RGMII_TXD2/MII_TXD2/RMII_NULL, E21 PF4/SDC0_D3/UART0_RX, F5 PA4/UART0_TX/PA_EINT4, F11 PA11/TWI0_SCK/DI_TX/PA_EINT11, F13 PA8/SIM_DATA/PA_EINT8, F14 PA15/SPI1_MOSI/UART3_RTS/PA_EINT15, F18 PF3/SDC0_CMD/JTAG_DO0, F19 PD5/RGMII_RXCTL/MII_RXDV/RMII_CRS_D, F20 PD11/RGMII_NULL/MII_CRS/RMII_NULL, F21 PD9/RGMII_TXD1/MII_TXD1/RMII_TXD1, G12 PA14/SPI1_CLK/UART3_RX/PA_EINT14, G18 PF6, H6 PA5/UART0_RX/PWM0/PA_EINT5, H17 PD1/RGMII_RXD2/MII_RXD2/RMII_NULL/DI_RX, H18 PD3/RGMII_RXD0/MII_RXD0/RMII_RXD0, H19 PD10/RGMII_TXD0/MII_TXD0/RMII_TXD0, J15 VCC-PD, K17 PD13/RGMII_TXCTL/MII_TXEN/RMII_TXEN, K18 PD15/RGMII_CLKIN/MII_COL/RMII_NULL, L17 PD14/RGMII_NULL/MII_TXERR/RMII_NULL, L18 PD16/MDC, L19 PD17/MDIO
part E pins: M1 PL1/S_TWI_SDA/S_PL_EINT1, M6 PL9/S_PL_EINT9, N1 PL0/S_TWI_SCK/S_PL_EINT0, N2 PL4/S_JTAG_MS/S_PL_EINT4, P2 PL2/S_UART_TX/S_PL_EINT2, R1 PL3/S_UART_RX/S_PL_EINT3, R2 PL5/S_JTAG_CK/S_PL_EINT5, T2 PL8/S_PL_EINT8, T3 PL7/S_JTAG_SI/S_PL_EINT7, T4 PL6/S_JTAG_DO/S_PL_EINT6, U2 PL11/S_CIR_RX/S_PL_EINT11, V2 PL10/S_PWM/S_PL_EINT10
part F pins: A2 EPHY_LINK_LED, A3 EPHY_TXN, A4 EPHY_RXN, AA2 LINEOUTR, AA3 LINEINL, B3 EPHY_TXP, B4 EPHY_RXP, E2 HTXCN, F1 HTX0N, F2 HTXCP, F6 EPHY_RTX, F7 EPHY_SPD_LED, F8 EPHY_GND, F10 TVOUT, G1 HTX0P, G2 HTX1N, G5 HCEC, G7 EPHY_VCC, G8 EPHY_VDD, G9 V33_TV, H2 HTX1P, H3 HSCL, H8 GND_TV, J1 HTX2P, J2 HTX2N, J6 HVCC, K3 HSDA, M2 HHPD, M5 HGND, U3 AGND, U4 VRP, V1 MICIN1N, V3 AVCC, W1 MICIN1P, W2 MICIN2P, W3 MBIAS, W5 VRA2, Y1 MICIN2N, Y2 LINEOUTL, Y3 VRA1, Y4 LINEINR
part G pins: A1 JTAG_SEL0, A5 USB_DP0, A7 USB_DP2, A8 USB_DM2, AA5 KEYADC, AA6 NMI, B2 JTAG_SEL, B5 USB_DM0, B6 USB_DP1, B7 USB_DM1, B8 USB_DP3, B9 USB_DM3, G10 VDD_EFUSE, G11 VCC-USB, J9 VDD_EFUSEBP, K1 X24MOUT, K2 X24MIN, K4 X24MFOUT, K6 VCC_RTC, L5 PLLTEST, M4 RTC_VIO, N3 VCC_PLL, P3 X32KFOUT, T5 TEST, V4 X32KOUT, V5 X32KIN, V6 RESET, W6 UBOOT
part H pins: G13 VCC_IO0, G14 VCC_IO1, G15 VCC_IO2, H10 VDD_SYS0, H11 VDD_SYS1, H13 VCC_IO3, H14 VCC_IO4, J7 VDD_CPUS0, J8 VDD_CPUS1, J10 VDD_SYS2, J11 VDD_SYS3, J12 VDD_SYS4, J14 VCC_IO5, K10 VDD_SYS5, K11 VDD_SYS6, K12 VDD_SYS7, L11 VDD_SYS8, L12 VDD_SYS9, L13 VDD_SYS10, L14 VDD_SYS11, N8 VDD_CPUX0, P6 VDD_CPUX1, P7 VDD_CPUX2, P8 VDD_CPUX3, P9 VDD_CPUX4, R6 VDD_CPUX5, R7 VDD_CPUX6, R8 VDD_CPUX7, T6 VDD_CPUX8, T7 VDD_CPUX9, T8 VDD_CPUX10, T9 GND_CPUXFB, T10 VDD_CPUXFB, U6 VDD_CPUX11, U9 VDD_CPUX12
part I pins: A21 GND0, AA1 GND46, H12 GND1, H15 GND2, J13 GND3, J16 GND4, K7 GND5, K8 GND6, K9 GND7, K13 GND8, K14 GND9, K15 GND10, K16 GND11, L8 GND12, L9 GND13, L10 GND14, L15 GND15, M7 GND16, M8 GND17, M9 GND18, M10 GND19, M11 GND20, M12 GND21, M13 GND22, M14 GND23, M15 GND24, N7 GND25, N9 GND26, N10 GND27, N11 GND28, N12 GND29, N13 GND30, N14 GND31, N15 GND32, P10 GND33, P11 GND34, P12 GND35, P13 GND36, P14 GND37, P15 GND38, R9 GND39, R10 GND40, R11 GND41, R12 GND42, R13 GND43, R14 GND44, T11 GND45
part A text: DRAM
part B text: NAND
part C text: SDC1
part D text: GPIO
part E text: CPUS
part F text: HDMI; AUDIO / CODEC; EPHY
part G text: USB; SYS
part H text: POWER
part I text: GND

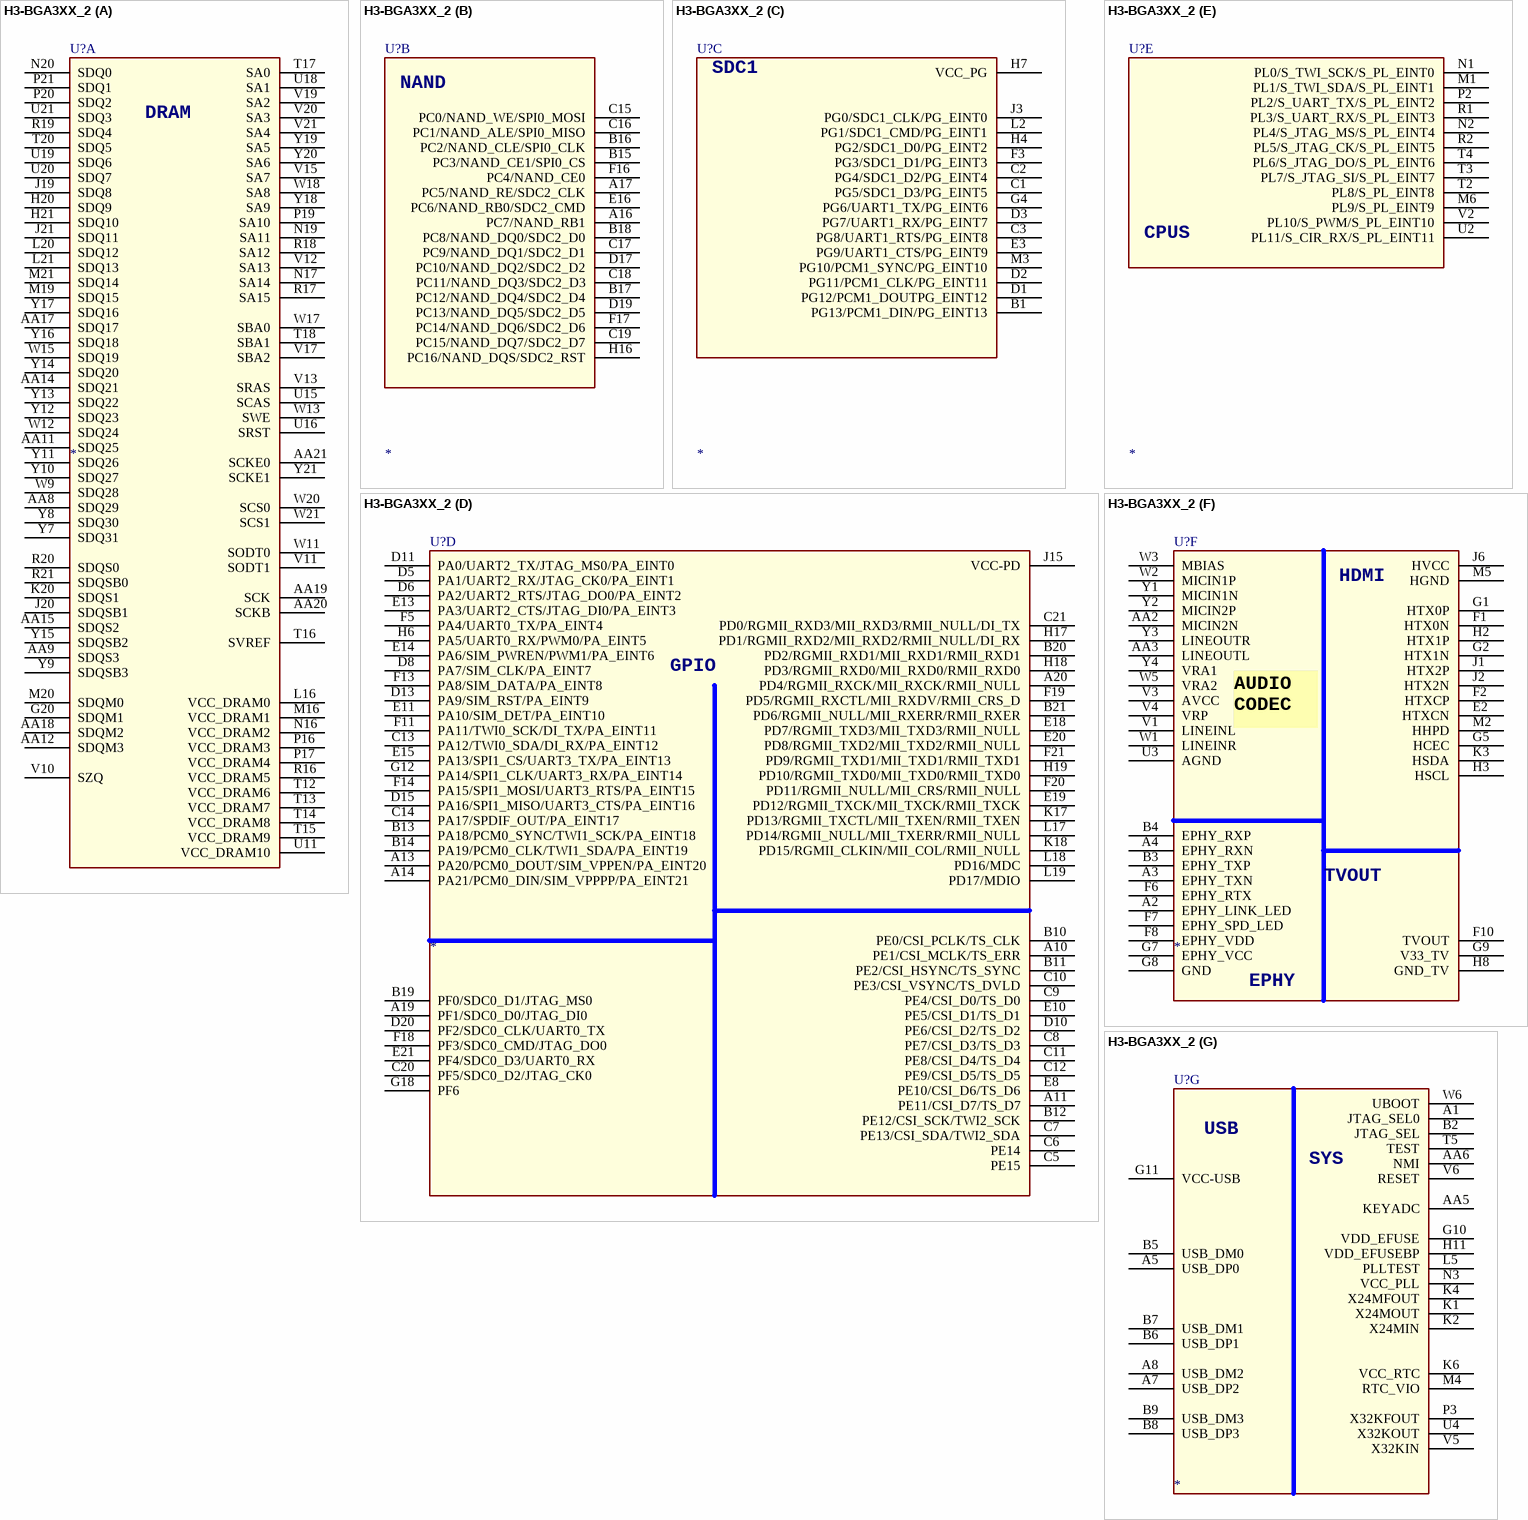
[diagram p13: symbol H3-BGA3XX_2]

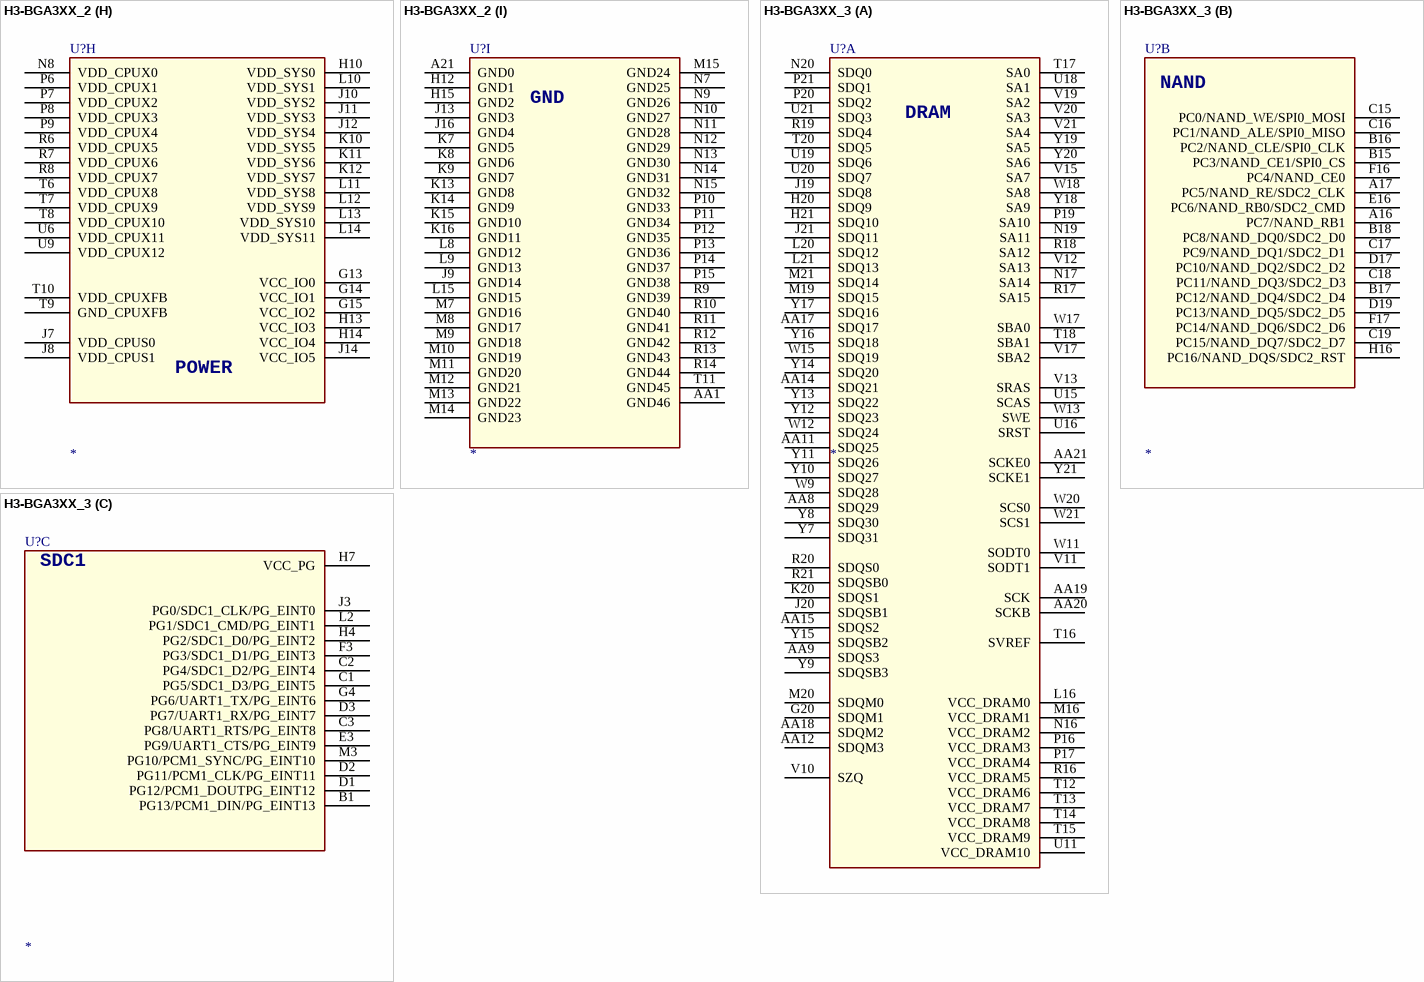
[diagram p14: symbols H3-BGA3XX_2 to H3-BGA3XX_3]

## H3-BGA3XX_2
designator U?
footprint BGA347P0_65B14X14
part A pins: AA8 SDQ29, AA9 SDQS3, AA11 SDQ25, AA12 SDQM3, AA14 SDQ21, AA15 SDQS2, AA17 SDQ17, AA18 SDQM2, AA19 SCK, AA20 SCKB, AA21 SCKE0, G20 SDQM1, H20 SDQ9, H21 SDQ10, J19 SDQ8, J20 SDQSB1, J21 SDQ11, K20 SDQS1, L16 VCC_DRAM0, L20 SDQ12, L21 SDQ13, M16 VCC_DRAM1, M19 SDQ15, M20 SDQM0, M21 SDQ14, N16 VCC_DRAM2, N17 SA14, N19 SA11, N20 SDQ0, P16 VCC_DRAM3, P17 VCC_DRAM4, P19 SA10, P20 SDQ2, P21 SDQ1, R16 VCC_DRAM5, R17 SA15, R18 SA12, R19 SDQ4, R20 SDQS0, R21 SDQSB0, T12 VCC_DRAM6, T13 VCC_DRAM7, T14 VCC_DRAM8, T15 VCC_DRAM9, T16 SVREF, T17 SA0, T18 SBA1, T20 SDQ5, U11 VCC_DRAM10, U15 SCAS, U16 SRST, U18 SA1, U19 SDQ6, U20 SDQ7, U21 SDQ3, V10 SZQ, V11 SODT1, V12 SA13, V13 SRAS, V15 SA7, V17 SBA2, V19 SA2, V20 SA3, V21 SA4, W9 SDQ28, W11 SODT0, W12 SDQ24, W13 SWE, W15 SDQ19, W17 SBA0, W18 SA8, W20 SCS0, W21 SCS1, Y7 SDQ31, Y8 SDQ30, Y9 SDQSB3, Y10 SDQ27, Y11 SDQ26, Y12 SDQ23, Y13 SDQ22, Y14 SDQ20, Y15 SDQSB2, Y16 SDQ18, Y17 SDQ16, Y18 SA9, Y19 SA5, Y20 SA6, Y21 SCKE1
part B pins: A16 PC7/NAND_RB1, A17 PC5/NAND_RE/SDC2_CLK, B15 PC3/NAND_CE1/SPI0_CS, B16 PC2/NAND_CLE/SPI0_CLK, B17 PC12/NAND_DQ4/SDC2_D4, B18 PC8/NAND_DQ0/SDC2_D0, C15 PC0/NAND_WE/SPI0_MOSI, C16 PC1/NAND_ALE/SPI0_MISO, C17 PC9/NAND_DQ1/SDC2_D1, C18 PC11/NAND_DQ3/SDC2_D3, C19 PC15/NAND_DQ7/SDC2_D7, D17 PC10/NAND_DQ2/SDC2_D2, D19 PC13/NAND_DQ5/SDC2_D5, E16 PC6/NAND_RB0/SDC2_CMD, F16 PC4/NAND_CE0, F17 PC14/NAND_DQ6/SDC2_D6, H16 PC16/NAND_DQS/SDC2_RST
part C pins: B1 PG13/PCM1_DIN/PG_EINT13, C1 PG5/SDC1_D3/PG_EINT5, C2 PG4/SDC1_D2/PG_EINT4, C3 PG8/UART1_RTS/PG_EINT8, D1 PG12/PCM1_DOUTPG_EINT12, D2 PG11/PCM1_CLK/PG_EINT11, D3 PG7/UART1_RX/PG_EINT7, E3 PG9/UART1_CTS/PG_EINT9, F3 PG3/SDC1_D1/PG_EINT3, G4 PG6/UART1_TX/PG_EINT6, H4 PG2/SDC1_D0/PG_EINT2, H7 VCC_PG, J3 PG0/SDC1_CLK/PG_EINT0, L2 PG1/SDC1_CMD/PG_EINT1, M3 PG10/PCM1_SYNC/PG_EINT10
part D pins: A10 PE1/CSI_MCLK/TS_ERR, A11 PE11/CSI_D7/TS_D7, A13 PA20/PCM0_DOUT/SIM_VPPEN/PA_EINT20, A14 PA21/PCM0_DIN/SIM_VPPPP/PA_EINT21, A19 PF1/SDC0_D0/JTAG_DI0, A20 PD4/RGMII_RXCK/MII_RXCK/RMII_NULL, B10 PE0/CSI_PCLK/TS_CLK, B11 PE2/CSI_HSYNC/TS_SYNC, B12 PE12/CSI_SCK/TWI2_SCK, B13 PA18/PCM0_SYNC/TWI1_SCK/PA_EINT18, B14 PA19/PCM0_CLK/TWI1_SDA/PA_EINT19, B19 PF0/SDC0_D1/JTAG_MS0, B20 PD2/RGMII_RXD1/MII_RXD1/RMII_RXD1, B21 PD6/RGMII_NULL/MII_RXERR/RMII_RXER, C5 PE15, C6 PE14, C7 PE13/CSI_SDA/TWI2_SDA, C8 PE7/CSI_D3/TS_D3, C9 PE4/CSI_D0/TS_D0, C10 PE3/CSI_VSYNC/TS_DVLD, C11 PE8/CSI_D4/TS_D4, C12 PE9/CSI_D5/TS_D5, C13 PA12/TWI0_SDA/DI_RX/PA_EINT12, C14 PA17/SPDIF_OUT/PA_EINT17, C20 PF5/SDC0_D2/JTAG_CK0, C21 PD0/RGMII_RXD3/MII_RXD3/RMII_NULL/DI_TX, D5 PA1/UART2_RX/JTAG_CK0/PA_EINT1, D6 PA2/UART2_RTS/JTAG_DO0/PA_EINT2, D8 PA7/SIM_CLK/PA_EINT7, D10 PE6/CSI_D2/TS_D2, D11 PA0/UART2_TX/JTAG_MS0/PA_EINT0, D13 PA9/SIM_RST/PA_EINT9, D15 PA16/SPI1_MISO/UART3_CTS/PA_EINT16, D20 PF2/SDC0_CLK/UART0_TX, E8 PE10/CSI_D6/TS_D6, E10 PE5/CSI_D1/TS_D1, E11 PA10/SIM_DET/PA_EINT10, E13 PA3/UART2_CTS/JTAG_DI0/PA_EINT3, E14 PA6/SIM_PWREN/PWM1/PA_EINT6, E15 PA13/SPI1_CS/UART3_TX/PA_EINT13, E18 PD7/RGMII_TXD3/MII_TXD3/RMII_NULL, E19 PD12/RGMII_TXCK/MII_TXCK/RMII_TXCK, E20 PD8/RGMII_TXD2/MII_TXD2/RMII_NULL, E21 PF4/SDC0_D3/UART0_RX, F5 PA4/UART0_TX/PA_EINT4, F11 PA11/TWI0_SCK/DI_TX/PA_EINT11, F13 PA8/SIM_DATA/PA_EINT8, F14 PA15/SPI1_MOSI/UART3_RTS/PA_EINT15, F18 PF3/SDC0_CMD/JTAG_DO0, F19 PD5/RGMII_RXCTL/MII_RXDV/RMII_CRS_D, F20 PD11/RGMII_NULL/MII_CRS/RMII_NULL, F21 PD9/RGMII_TXD1/MII_TXD1/RMII_TXD1, G12 PA14/SPI1_CLK/UART3_RX/PA_EINT14, G18 PF6, H6 PA5/UART0_RX/PWM0/PA_EINT5, H17 PD1/RGMII_RXD2/MII_RXD2/RMII_NULL/DI_RX, H18 PD3/RGMII_RXD0/MII_RXD0/RMII_RXD0, H19 PD10/RGMII_TXD0/MII_TXD0/RMII_TXD0, J15 VCC-PD, K17 PD13/RGMII_TXCTL/MII_TXEN/RMII_TXEN, K18 PD15/RGMII_CLKIN/MII_COL/RMII_NULL, L17 PD14/RGMII_NULL/MII_TXERR/RMII_NULL, L18 PD16/MDC, L19 PD17/MDIO
part E pins: M1 PL1/S_TWI_SDA/S_PL_EINT1, M6 PL9/S_PL_EINT9, N1 PL0/S_TWI_SCK/S_PL_EINT0, N2 PL4/S_JTAG_MS/S_PL_EINT4, P2 PL2/S_UART_TX/S_PL_EINT2, R1 PL3/S_UART_RX/S_PL_EINT3, R2 PL5/S_JTAG_CK/S_PL_EINT5, T2 PL8/S_PL_EINT8, T3 PL7/S_JTAG_SI/S_PL_EINT7, T4 PL6/S_JTAG_DO/S_PL_EINT6, U2 PL11/S_CIR_RX/S_PL_EINT11, V2 PL10/S_PWM/S_PL_EINT10
part F pins: A2 EPHY_LINK_LED, A3 EPHY_TXN, A4 EPHY_RXN, AA2 MICIN2N, AA3 LINEOUTL, B3 EPHY_TXP, B4 EPHY_RXP, E2 HTXCN, F1 HTX0N, F2 HTXCP, F6 EPHY_RTX, F7 EPHY_SPD_LED, F8 EPHY_VDD, F10 TVOUT, G1 HTX0P, G2 HTX1N, G5 HCEC, G7 EPHY_VCC, G8 GND, G9 V33_TV, H2 HTX1P, H3 HSCL, H8 GND_TV, J1 HTX2P, J2 HTX2N, J6 HVCC, K3 HSDA, M2 HHPD, M5 HGND, U3 AGND, V1 LINEINL, V3 AVCC, V4 VRP, W1 LINEINR, W2 MICIN1P, W3 MBIAS, W5 VRA2, Y1 MICIN1N, Y2 MICIN2P, Y3 LINEOUTR, Y4 VRA1
part G pins: A1 JTAG_SEL0, A5 USB_DP0, A7 USB_DP2, A8 USB_DM2, AA5 KEYADC, AA6 NMI, B2 JTAG_SEL, B5 USB_DM0, B6 USB_DP1, B7 USB_DM1, B8 USB_DP3, B9 USB_DM3, G10 VDD_EFUSE, G11 VCC-USB, H11 VDD_EFUSEBP, K1 X24MOUT, K2 X24MIN, K4 X24MFOUT, K6 VCC_RTC, L5 PLLTEST, M4 RTC_VIO, N3 VCC_PLL, P3 X32KFOUT, T5 TEST, U4 X32KOUT, V5 X32KIN, V6 RESET, W6 UBOOT
part H pins: G13 VCC_IO0, G14 VCC_IO1, G15 VCC_IO2, H10 VDD_SYS0, H13 VCC_IO3, H14 VCC_IO4, J7 VDD_CPUS0, J8 VDD_CPUS1, J10 VDD_SYS2, J11 VDD_SYS3, J12 VDD_SYS4, J14 VCC_IO5, K10 VDD_SYS5, K11 VDD_SYS6, K12 VDD_SYS7, L10 VDD_SYS1, L11 VDD_SYS8, L12 VDD_SYS9, L13 VDD_SYS10, L14 VDD_SYS11, N8 VDD_CPUX0, P6 VDD_CPUX1, P7 VDD_CPUX2, P8 VDD_CPUX3, P9 VDD_CPUX4, R6 VDD_CPUX5, R7 VDD_CPUX6, R8 VDD_CPUX7, T6 VDD_CPUX8, T7 VDD_CPUX9, T8 VDD_CPUX10, T9 GND_CPUXFB, T10 VDD_CPUXFB, U6 VDD_CPUX11, U9 VDD_CPUX12
part I pins: A21 GND0, AA1 GND46, H12 GND1, H15 GND2, J9 GND14, J13 GND3, J16 GND4, K7 GND5, K8 GND6, K9 GND7, K13 GND8, K14 GND9, K15 GND10, K16 GND11, L8 GND12, L9 GND13, L15 GND15, M7 GND16, M8 GND17, M9 GND18, M10 GND19, M11 GND20, M12 GND21, M13 GND22, M14 GND23, M15 GND24, N7 GND25, N9 GND26, N10 GND27, N11 GND28, N12 GND29, N13 GND30, N14 GND31, N15 GND32, P10 GND33, P11 GND34, P12 GND35, P13 GND36, P14 GND37, P15 GND38, R9 GND39, R10 GND40, R11 GND41, R12 GND42, R13 GND43, R14 GND44, T11 GND45
part A text: DRAM
part B text: NAND
part C text: SDC1
part D text: GPIO
part E text: CPUS
part F text: HDMI; AUDIO / CODEC; EPHY
part G text: USB; SYS
part H text: POWER

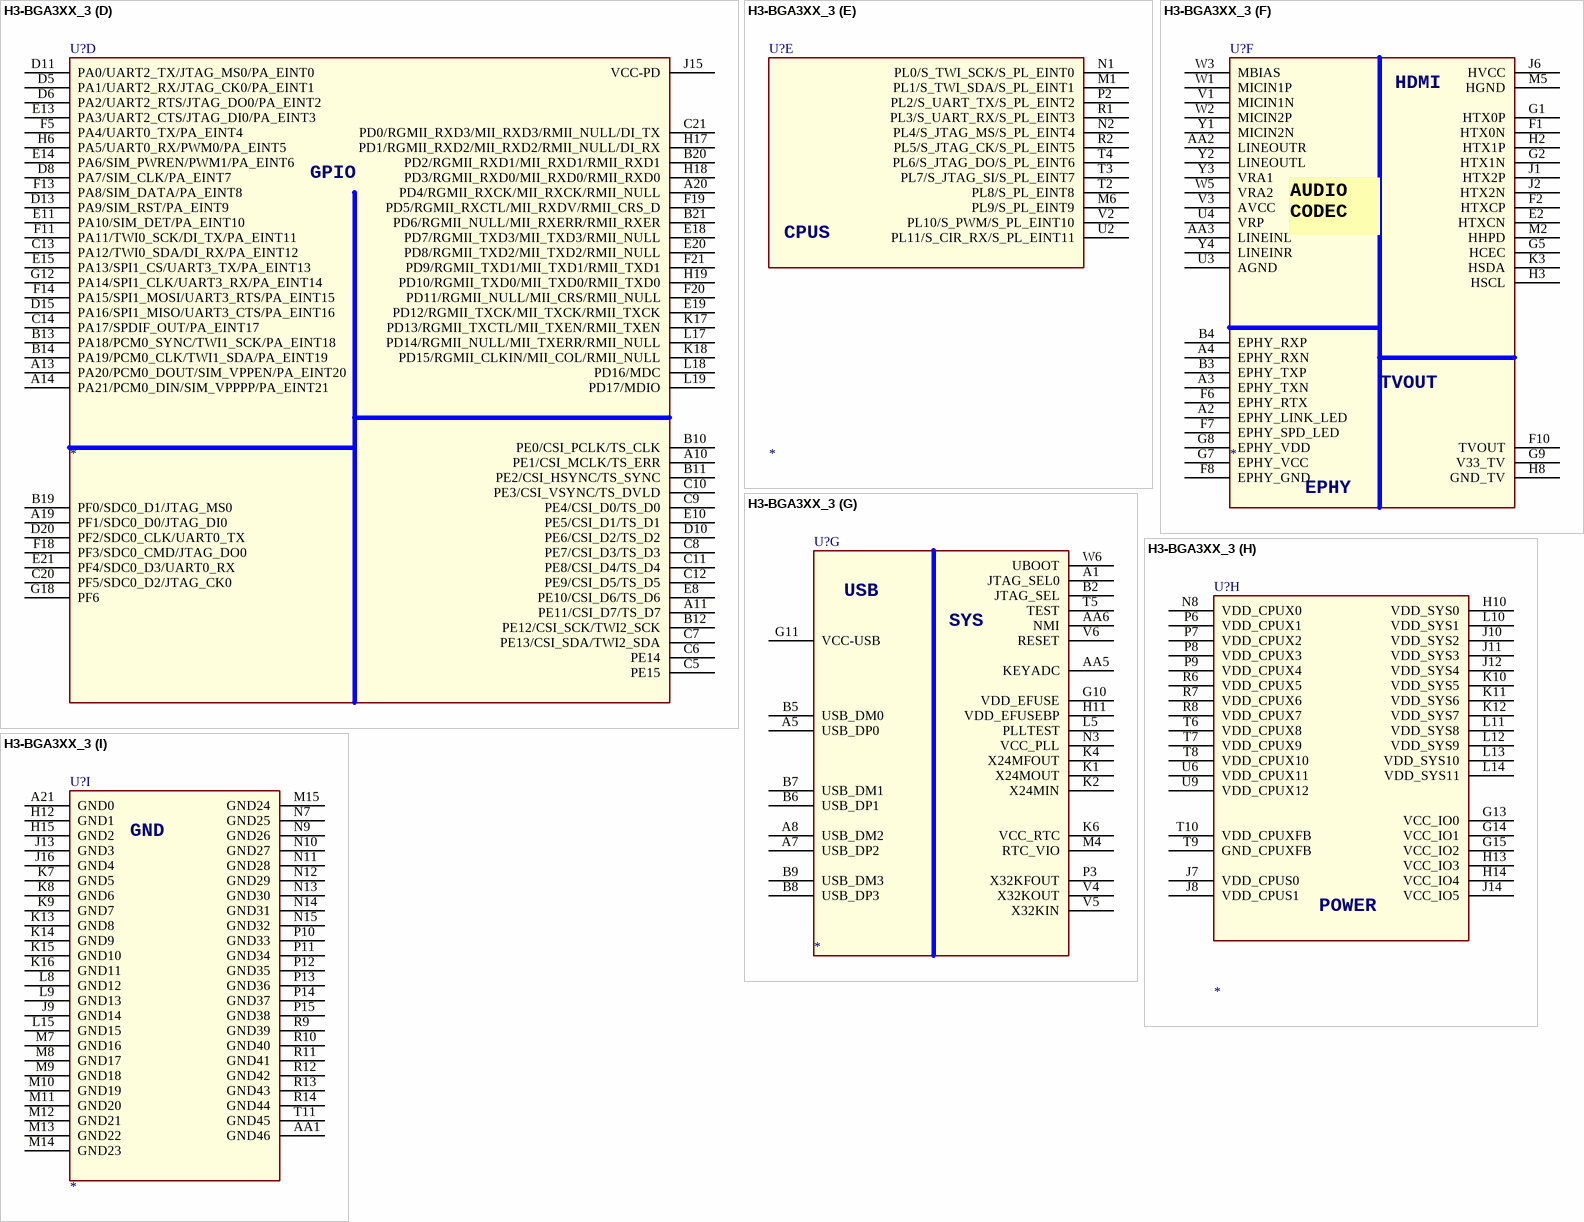
[diagram p15: symbol H3-BGA3XX_3]